# Altium integrated library Xilinx XC4000.IntLib: 294 symbols (part 5 of 21)
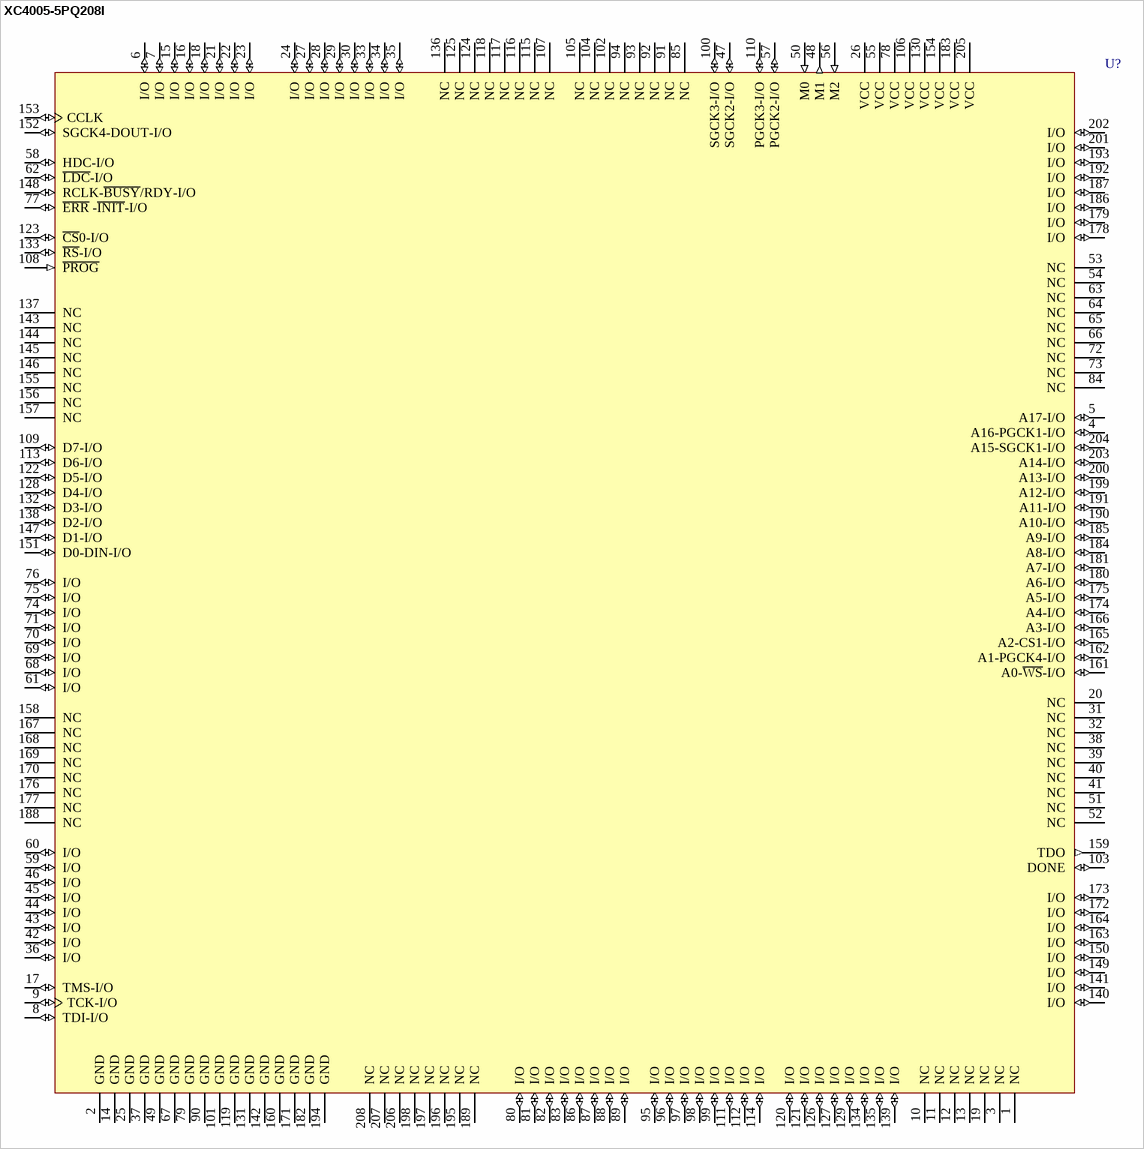
[diagram p233: symbol XC4005-5PQ208I]

## XC4005-5PQ208I
designator U?
Logic Cell Array, with 112 I/O Pins, 208-Pin PQFP, Industrial Grade; ComponentAvailability: Not for New Design; Published: 8-Jun-2000; LatestRevisionDate: 13-Apr-2006; LatestRevisionNote: IPC-7351 Footprint Added.; DatasheetVersion: 1994; PackageVersion: ver1.2, Jun-2004; PackageReference: PQ208; Publisher: Altium Limited; PackageDescription: 208-Pin Plastic Quad Flat Pack (PQ208); Code_JEDEC: MS-029-FA-1; ComponentLink1Description: Manufacturer Link; ComponentLink1URL: http://www.xilinx.com/; ComponentLink2Description: Datasheet; ComponentLink2URL: http://direct.xilinx.com/bvdocs/publications/4000.pdf
footprint PQ208_N (Shrink QFP, 208-Leads, Body 28x28mm, Pitch 0.5mm, IPC Medium Density)
footprint PQ208_L (Shrink QFP, 208-Leads, Body 28x28mm, Pitch 0.5mm, IPC High Density)
footprint PQ208_M (Shrink QFP, 208-Leads, Body 28x28mm, Pitch 0.5mm, IPC Low Density)
3D model XC4005-PQ208 (208-Pin Plastic Quad Flat Pack (PQ208))
pins: 1 NC, 2 GND (power), 3 NC, 4 A16-PGCK1-I/O (io), 5 A17-I/O (io), 6 I/O (io), 7 I/O (io), 8 TDI-I/O (io), 9 TCK-I/O (io), 10 NC, 11 NC, 12 NC, 13 NC, 14 GND (power), 15 I/O (io), 16 I/O (io), 17 TMS-I/O (io), 18 I/O (io), 19 NC, 20 NC, 21 I/O (io), 22 I/O (io), 23 I/O (io), 24 I/O (io), 25 GND (power), 26 VCC (power), 27 I/O (io), 28 I/O (io), 29 I/O (io), 30 I/O (io), 31 NC, 32 NC, 33 I/O (io), 34 I/O (io), 35 I/O (io), 36 I/O (io), 37 GND (power), 38 NC, 39 NC, 40 NC, 41 NC, 42 I/O (io), 43 I/O (io), 44 I/O (io), 45 I/O (io), 46 I/O (io), 47 SGCK2-I/O (io), 48 M1 (out), 49 GND (power), 50 M0 (in), 51 NC, 52 NC, 53 NC, 54 NC, 55 VCC (power), 56 M2 (in), 57 PGCK2-I/O (io), 58 HDC-I/O (io), 59 I/O (io), 60 I/O (io), 61 I/O (io), 62 ~{LDC}-I/O (io), 63 NC, 64 NC, 65 NC, 66 NC, 67 GND (power), 68 I/O (io), 69 I/O (io), 70 I/O (io), 71 I/O (io), 72 NC, 73 NC, 74 I/O (io), 75 I/O (io), 76 I/O (io), 77 ~{ERR} -~{INIT}-I/O (io), 78 VCC (power), 79 GND (power), 80 I/O (io), 81 I/O (io), 82 I/O (io), 83 I/O (io), 84 NC, 85 NC, 86 I/O (io), 87 I/O (io), 88 I/O (io), 89 I/O (io), 90 GND (power), 91 NC, 92 NC, 93 NC, 94 NC, 95 I/O (io), 96 I/O (io), 97 I/O (io), 98 I/O (io), 99 I/O (io), 100 SGCK3-I/O (io), 101 GND (power), 102 NC, 103 DONE (io), 104 NC, 105 NC, 106 VCC (power), 107 NC, 108 ~{PROG} (in), 109 D7-I/O (io), 110 PGCK3-I/O (io), 111 I/O (io), 112 I/O (io), 113 D6-I/O (io), 114 I/O (io), 115 NC, 116 NC, 117 NC, 118 NC, 119 GND (power), 120 I/O (io), 121 I/O (io), 122 D5-I/O (io), 123 ~{CS}0-I/O (io), 124 NC, 125 NC, 126 I/O (io), 127 I/O (io), 128 D4-I/O (io), 129 I/O (io), 130 VCC (power), 131 GND (power), 132 D3-I/O (io), 133 ~{RS}-I/O (io), 134 I/O (io), 135 I/O (io), 136 NC, 137 NC, 138 D2-I/O (io), 139 I/O (io), 140 I/O (io), 141 I/O (io), 142 GND (power), 143 NC, 144 NC, 145 NC, 146 NC, 147 D1-I/O (io), 148 RCLK-~{BUSY}/RDY-I/O (io), 149 I/O (io), 150 I/O (io), 151 D0-DIN-I/O (io), 152 SGCK4-DOUT-I/O (io), 153 CCLK (io), 154 VCC (power), 155 NC, 156 NC, 157 NC, 158 NC, 159 TDO (out), 160 GND (power), 161 A0-~{WS}-I/O (io), 162 A1-PGCK4-I/O (io), 163 I/O (io), 164 I/O (io), 165 A2-CS1-I/O (io), 166 A3-I/O (io), 167 NC, 168 NC, 169 NC, 170 NC, 171 GND (power), 172 I/O (io), 173 I/O (io), 174 A4-I/O (io), 175 A5-I/O (io), 176 NC, 177 NC, 178 I/O (io), 179 I/O (io), 180 A6-I/O (io), 181 A7-I/O (io), 182 GND (power), 183 VCC (power), 184 A8-I/O (io), 185 A9-I/O (io), 186 I/O (io), 187 I/O (io), 188 NC, 189 NC, 190 A10-I/O (io), 191 A11-I/O (io), 192 I/O (io), 193 I/O (io), 194 GND (power), 195 NC, 196 NC, 197 NC, 198 NC, 199 A12-I/O (io), 200 A13-I/O (io), 201 I/O (io), 202 I/O (io), 203 A14-I/O (io), 204 A15-SGCK1-I/O (io), 205 VCC (power), 206 NC, 207 NC, 208 NC

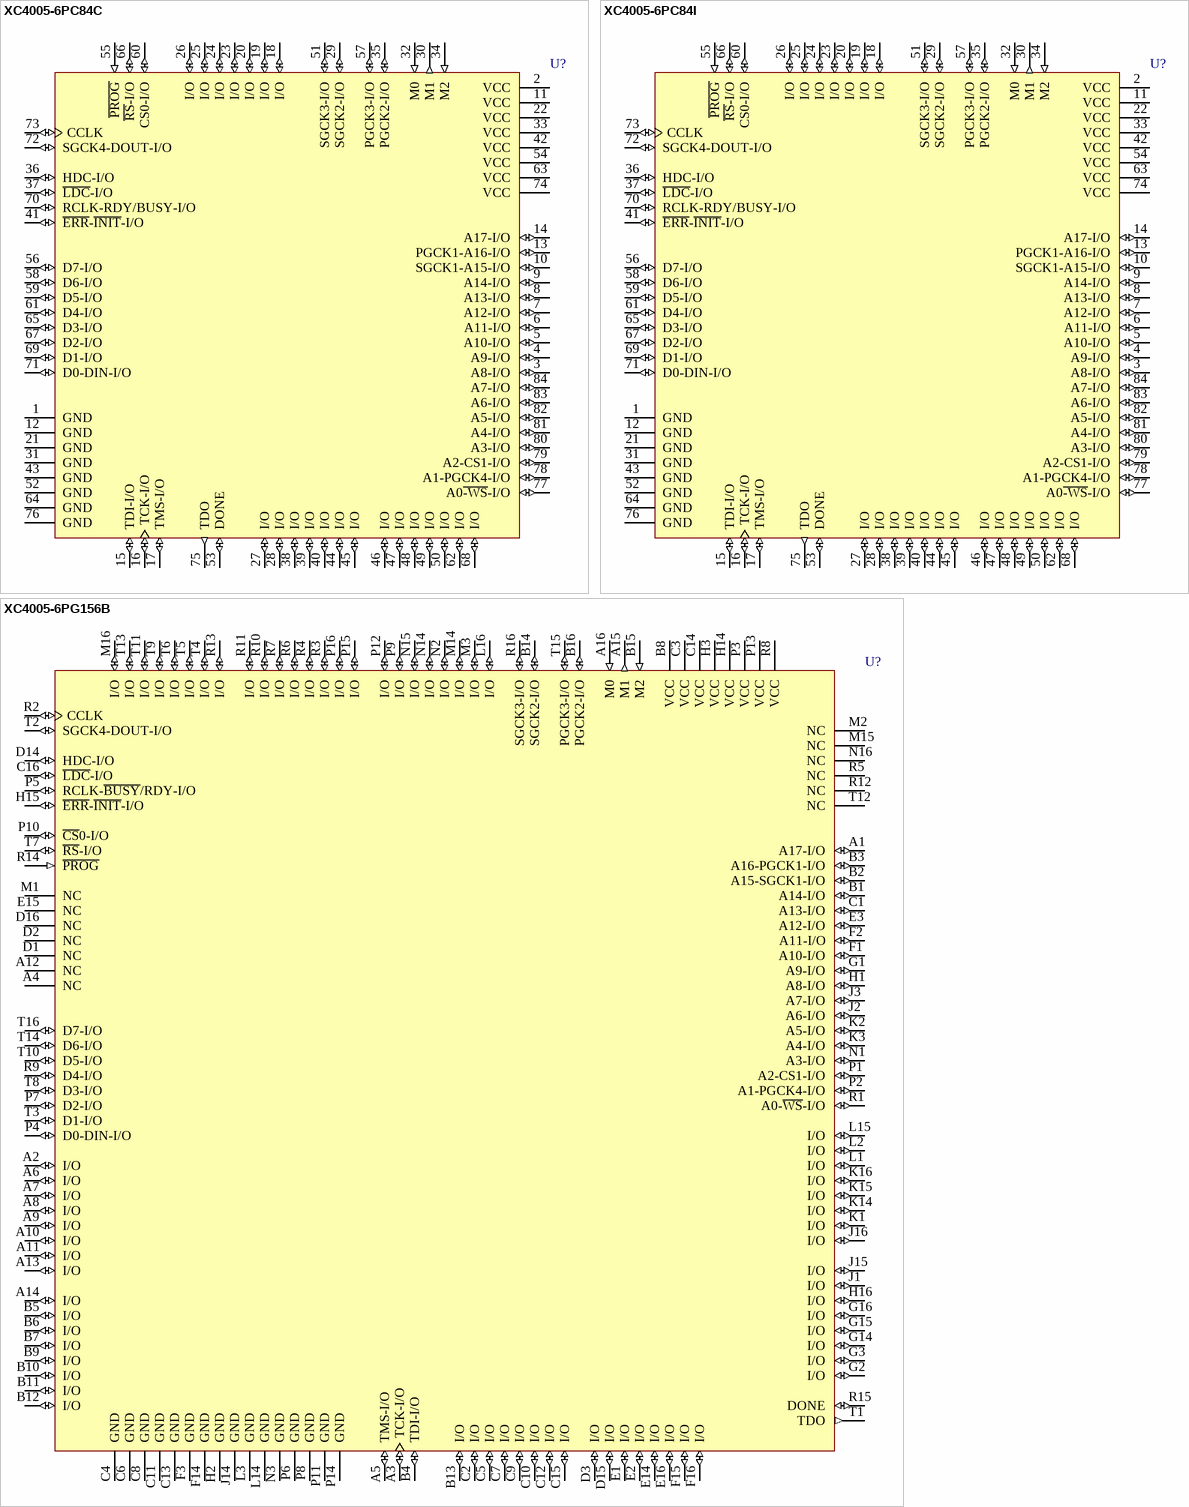
[diagram p31: symbols XC4005-6PC84C to XC4005-6PG156B]

## XC4005-6PC84C
designator U?
Logic Cell Array, with 61 I/O Pins, 84-Pin PLCC, Commercial Grade; ComponentAvailability: Not for New Design; Published: 8-Jun-2000; LatestRevisionDate: 13-Apr-2006; LatestRevisionNote: IPC-7351 Footprint Added.; DatasheetVersion: 1994; PackageVersion: ver1.2, Jun-2004; PackageReference: PC84; Publisher: Altium Limited; PackageDescription: 84-Pin Plastic Leaded Chip Carrier (PC84); Code_JEDEC: MS-047; Code_IPC: PLCC-84; ComponentLink1Description: Manufacturer Link; ComponentLink1URL: http://www.xilinx.com/; ComponentLink2Description: Discontinuation Notice; ComponentLink2URL: http://direct.xilinx.com/bvdocs/notifications/pdn2002-03.pdf
footprint PC84_N (Leaded Chip Carrier, 84-Leads, Body 29.3x29.3mm, Pitch 1.27mm, IPC Medium Density)
footprint PC84_L (Leaded Chip Carrier, 84-Leads, Body 29.3x29.3mm, Pitch 1.27mm, IPC High Density)
footprint PC84_M (Leaded Chip Carrier, 84-Leads, Body 29.3x29.3mm, Pitch 1.27mm, IPC Low Density)
3D model XC4005-PC84 (84-Pin Plastic Leaded Chip Carrier (PC84))
pins: 1 GND (power), 2 VCC (power), 3 A8-I/O (io), 4 A9-I/O (io), 5 A10-I/O (io), 6 A11-I/O (io), 7 A12-I/O (io), 8 A13-I/O (io), 9 A14-I/O (io), 10 SGCK1-A15-I/O (io), 11 VCC (power), 12 GND (power), 13 PGCK1-A16-I/O (io), 14 A17-I/O (io), 15 TDI-I/O (io), 16 TCK-I/O (io), 17 TMS-I/O (io), 18 I/O (io), 19 I/O (io), 20 I/O (io), 21 GND (power), 22 VCC (power), 23 I/O (io), 24 I/O (io), 25 I/O (io), 26 I/O (io), 27 I/O (io), 28 I/O (io), 29 SGCK2-I/O (io), 30 M1 (out), 31 GND (power), 32 M0 (in), 33 VCC (power), 34 M2 (in), 35 PGCK2-I/O (io), 36 HDC-I/O (io), 37 ~{LDC}-I/O (io), 38 I/O (io), 39 I/O (io), 40 I/O (io), 41 ~{ERR}-~{INIT}-I/O (io), 42 VCC (power), 43 GND (power), 44 I/O (io), 45 I/O (io), 46 I/O (io), 47 I/O (io), 48 I/O (io), 49 I/O (io), 50 I/O (io), 51 SGCK3-I/O (io), 52 GND (power), 53 DONE (io), 54 VCC (power), 55 ~{PROG} (in), 56 D7-I/O (io), 57 PGCK3-I/O (io), 58 D6-I/O (io), 59 D5-I/O (io), 60 CS0-I/O (io), 61 D4-I/O (io), 62 I/O (io), 63 VCC (power), 64 GND (power), 65 D3-I/O (io), 66 ~{RS}-I/O (io), 67 D2-I/O (io), 68 I/O (io), 69 D1-I/O (io), 70 RCLK-RDY/BUSY-I/O (io), 71 D0-DIN-I/O (io), 72 SGCK4-DOUT-I/O (io), 73 CCLK (io), 74 VCC (power), 75 TDO (out), 76 GND (power), 77 A0~{-WS}-I/O (io), 78 A1-PGCK4-I/O (io), 79 A2-CS1-I/O (io), 80 A3-I/O (io), 81 A4-I/O (io), 82 A5-I/O (io), 83 A6-I/O (io), 84 A7-I/O (io)

## XC4005-6PC84I
designator U?
Logic Cell Array, with 61 I/O Pins, 84-Pin PLCC, Industrial Grade; ComponentAvailability: Not for New Design; Published: 8-Jun-2000; LatestRevisionDate: 13-Apr-2006; LatestRevisionNote: IPC-7351 Footprint Added.; DatasheetVersion: 1994; PackageVersion: ver1.2, Jun-2004; PackageReference: PC84; Publisher: Altium Limited; PackageDescription: 84-Pin Plastic Leaded Chip Carrier (PC84); Code_JEDEC: MS-047; Code_IPC: PLCC-84; ComponentLink1Description: Manufacturer Link; ComponentLink1URL: http://www.xilinx.com/; ComponentLink2Description: Discontinuation Notice; ComponentLink2URL: http://direct.xilinx.com/bvdocs/notifications/pdn2002-03.pdf
footprint PC84_N (Leaded Chip Carrier, 84-Leads, Body 29.3x29.3mm, Pitch 1.27mm, IPC Medium Density)
footprint PC84_L (Leaded Chip Carrier, 84-Leads, Body 29.3x29.3mm, Pitch 1.27mm, IPC High Density)
footprint PC84_M (Leaded Chip Carrier, 84-Leads, Body 29.3x29.3mm, Pitch 1.27mm, IPC Low Density)
3D model XC4005-PC84 (84-Pin Plastic Leaded Chip Carrier (PC84))
pins: 1 GND (power), 2 VCC (power), 3 A8-I/O (io), 4 A9-I/O (io), 5 A10-I/O (io), 6 A11-I/O (io), 7 A12-I/O (io), 8 A13-I/O (io), 9 A14-I/O (io), 10 SGCK1-A15-I/O (io), 11 VCC (power), 12 GND (power), 13 PGCK1-A16-I/O (io), 14 A17-I/O (io), 15 TDI-I/O (io), 16 TCK-I/O (io), 17 TMS-I/O (io), 18 I/O (io), 19 I/O (io), 20 I/O (io), 21 GND (power), 22 VCC (power), 23 I/O (io), 24 I/O (io), 25 I/O (io), 26 I/O (io), 27 I/O (io), 28 I/O (io), 29 SGCK2-I/O (io), 30 M1 (out), 31 GND (power), 32 M0 (in), 33 VCC (power), 34 M2 (in), 35 PGCK2-I/O (io), 36 HDC-I/O (io), 37 ~{LDC}-I/O (io), 38 I/O (io), 39 I/O (io), 40 I/O (io), 41 ~{ERR}-~{INIT}-I/O (io), 42 VCC (power), 43 GND (power), 44 I/O (io), 45 I/O (io), 46 I/O (io), 47 I/O (io), 48 I/O (io), 49 I/O (io), 50 I/O (io), 51 SGCK3-I/O (io), 52 GND (power), 53 DONE (io), 54 VCC (power), 55 ~{PROG} (in), 56 D7-I/O (io), 57 PGCK3-I/O (io), 58 D6-I/O (io), 59 D5-I/O (io), 60 CS0-I/O (io), 61 D4-I/O (io), 62 I/O (io), 63 VCC (power), 64 GND (power), 65 D3-I/O (io), 66 ~{RS}-I/O (io), 67 D2-I/O (io), 68 I/O (io), 69 D1-I/O (io), 70 RCLK-RDY/BUSY-I/O (io), 71 D0-DIN-I/O (io), 72 SGCK4-DOUT-I/O (io), 73 CCLK (io), 74 VCC (power), 75 TDO (out), 76 GND (power), 77 A0~{-WS}-I/O (io), 78 A1-PGCK4-I/O (io), 79 A2-CS1-I/O (io), 80 A3-I/O (io), 81 A4-I/O (io), 82 A5-I/O (io), 83 A6-I/O (io), 84 A7-I/O (io)

## XC4005-6PG156B
designator U?
Logic Cell Array, with 112 I/O Pins, 156-Pin PGA, Military Class B Grade; ComponentAvailability: Not for New Design; Published: 8-Jun-2000; LatestRevisionDate: 04-Mar-2005; LatestRevisionNote: Stylized 3D Model Added.; DatasheetVersion: 1994; PackageVersion: ver1.1, Apr-2001; PackageReference: PG156; Publisher: Altium Limited; PackageDescription: 156-Pin Ceramic Pin Grid Array (PG156); Code_JEDEC: MO-067-AH; ComponentLink1Description: Manufacturer Link; ComponentLink1URL: http://www.xilinx.com/; ComponentLink2Description: Datasheet; ComponentLink2URL: http://direct.xilinx.com/bvdocs/publications/4000.pdf
footprint PG156 (PGA, 156-Leads, Body 42x42mm, Pitch 2.54mm)
3D model XC4005-PG156 (156-Pin Ceramic Pin Grid Array (PG156))
pins: A1 A17-I/O (io), A2 I/O (io), A3 TCK-I/O (io), A4 NC, A5 TMS-I/O (io), A6 I/O (io), A7 I/O (io), A8 I/O (io), A9 I/O (io), A10 I/O (io), A11 I/O (io), A12 NC, A13 I/O (io), A14 I/O (io), A15 M1 (out), A16 M0 (in), B1 A14-I/O (io), B2 A15-SGCK1-I/O (io), B3 A16-PGCK1-I/O (io), B4 TDI-I/O (io), B5 I/O (io), B6 I/O (io), B7 I/O (io), B8 VCC (power), B9 I/O (io), B10 I/O (io), B11 I/O (io), B12 I/O (io), B13 I/O (io), B14 SGCK2-I/O (io), B15 M2 (in), B16 PGCK2-I/O (io), C1 A13-I/O (io), C2 I/O (io), C3 VCC (power), C4 GND (power), C5 I/O (io), C6 GND (power), C7 I/O (io), C8 GND (power), C9 I/O (io), C10 I/O (io), C11 GND (power), C12 I/O (io), C13 GND (power), C14 VCC (power), C15 I/O (io), C16 ~{LDC}-I/O (io), D1 NC, D2 NC, D3 I/O (io), D14 HDC-I/O (io), D15 I/O (io), D16 NC, E1 I/O (io), E2 I/O (io), E3 A12-I/O (io), E14 I/O (io), E15 NC, E16 I/O (io), F1 A10-I/O (io), F2 A11-I/O (io), F3 GND (power), F14 GND (power), F15 I/O (io), F16 I/O (io), G1 A9-I/O (io), G2 I/O (io), G3 I/O (io), G14 I/O (io), G15 I/O (io), G16 I/O (io), H1 A8-I/O (io), H2 GND (power), H3 VCC (power), H14 VCC (power), H15 ~{ERR}-~{INIT}-I/O (io), H16 I/O (io), J1 I/O (io), J2 A6-I/O (io), J3 A7-I/O (io), J14 GND (power), J15 I/O (io), J16 I/O (io), K1 I/O (io), K2 A5-I/O (io), K3 A4-I/O (io), K14 I/O (io), K15 I/O (io), K16 I/O (io), L1 I/O (io), L2 I/O (io), L3 GND (power), L14 GND (power), L15 I/O (io), L16 I/O (io), M1 NC, M2 NC, M3 I/O (io), M14 I/O (io), M15 NC, M16 I/O (io), N1 A3-I/O (io), N2 I/O (io), N3 GND (power), N14 I/O (io), N15 I/O (io), N16 NC, P1 A2-CS1-I/O (io), P2 A1-PGCK4-I/O (io), P3 VCC (power), P4 D0-DIN-I/O (io), P5 RCLK-~{BUSY}/RDY-I/O (io), P6 GND (power), P7 D2-I/O (io), P8 GND (power), P9 I/O (io), P10 ~{CS}0-I/O (io), P11 GND (power), P12 I/O (io), P13 VCC (power), P14 GND (power), P15 I/O (io), P16 I/O (io), R1 A0-~{WS}-I/O (io), R2 CCLK (io), R3 I/O (io), R4 I/O (io), R5 NC, R6 I/O (io), R7 I/O (io), R8 VCC (power), R9 D4-I/O (io), R10 I/O (io), R11 I/O (io), R12 NC, R13 I/O (io), R14 ~{PROG} (in), R15 DONE (io), R16 SGCK3-I/O (io), T1 TDO (out), T2 SGCK4-DOUT-I/O (io), T3 D1-I/O (io), T4 I/O (io), T5 I/O (io), T6 I/O (io), T7 ~{RS}-I/O (io), T8 D3-I/O (io), T9 I/O (io), T10 D5-I/O (io), T11 I/O (io), T12 NC, T13 I/O (io), T14 D6-I/O (io), T15 PGCK3-I/O (io), T16 D7-I/O (io)

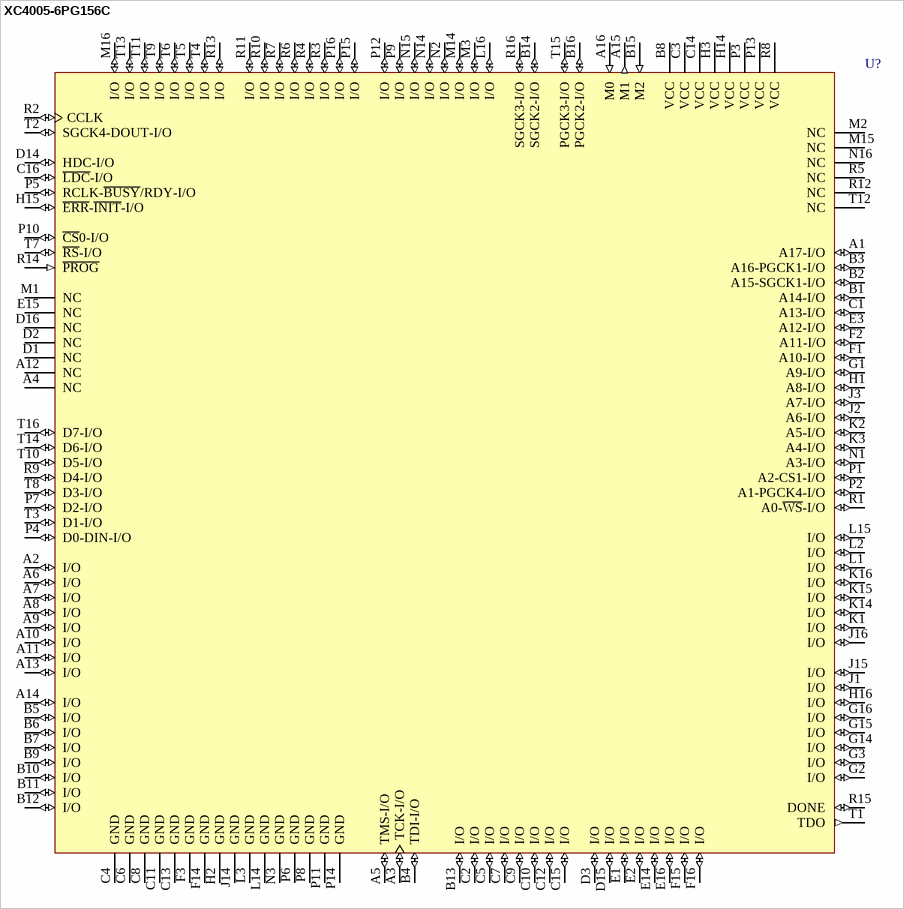
[diagram p32: symbol XC4005-6PG156C]

## XC4005-6PG156C
designator U?
Logic Cell Array, with 112 I/O Pins, 156-Pin PGA, Commercial Grade; ComponentAvailability: Not for New Design; Published: 8-Jun-2000; LatestRevisionDate: 04-Mar-2005; LatestRevisionNote: Stylized 3D Model Added.; DatasheetVersion: 1994; PackageVersion: ver1.1, Apr-2001; PackageReference: PG156; Publisher: Altium Limited; PackageDescription: 156-Pin Ceramic Pin Grid Array (PG156); Code_JEDEC: MO-067-AH; ComponentLink1Description: Manufacturer Link; ComponentLink1URL: http://www.xilinx.com/; ComponentLink2Description: Discontinuation Notice; ComponentLink2URL: http://direct.xilinx.com/bvdocs/notifications/pdn2002-03.pdf
footprint PG156 (PGA, 156-Leads, Body 42x42mm, Pitch 2.54mm)
3D model XC4005-PG156 (156-Pin Ceramic Pin Grid Array (PG156))
pins: A1 A17-I/O (io), A2 I/O (io), A3 TCK-I/O (io), A4 NC, A5 TMS-I/O (io), A6 I/O (io), A7 I/O (io), A8 I/O (io), A9 I/O (io), A10 I/O (io), A11 I/O (io), A12 NC, A13 I/O (io), A14 I/O (io), A15 M1 (out), A16 M0 (in), B1 A14-I/O (io), B2 A15-SGCK1-I/O (io), B3 A16-PGCK1-I/O (io), B4 TDI-I/O (io), B5 I/O (io), B6 I/O (io), B7 I/O (io), B8 VCC (power), B9 I/O (io), B10 I/O (io), B11 I/O (io), B12 I/O (io), B13 I/O (io), B14 SGCK2-I/O (io), B15 M2 (in), B16 PGCK2-I/O (io), C1 A13-I/O (io), C2 I/O (io), C3 VCC (power), C4 GND (power), C5 I/O (io), C6 GND (power), C7 I/O (io), C8 GND (power), C9 I/O (io), C10 I/O (io), C11 GND (power), C12 I/O (io), C13 GND (power), C14 VCC (power), C15 I/O (io), C16 ~{LDC}-I/O (io), D1 NC, D2 NC, D3 I/O (io), D14 HDC-I/O (io), D15 I/O (io), D16 NC, E1 I/O (io), E2 I/O (io), E3 A12-I/O (io), E14 I/O (io), E15 NC, E16 I/O (io), F1 A10-I/O (io), F2 A11-I/O (io), F3 GND (power), F14 GND (power), F15 I/O (io), F16 I/O (io), G1 A9-I/O (io), G2 I/O (io), G3 I/O (io), G14 I/O (io), G15 I/O (io), G16 I/O (io), H1 A8-I/O (io), H2 GND (power), H3 VCC (power), H14 VCC (power), H15 ~{ERR}-~{INIT}-I/O (io), H16 I/O (io), J1 I/O (io), J2 A6-I/O (io), J3 A7-I/O (io), J14 GND (power), J15 I/O (io), J16 I/O (io), K1 I/O (io), K2 A5-I/O (io), K3 A4-I/O (io), K14 I/O (io), K15 I/O (io), K16 I/O (io), L1 I/O (io), L2 I/O (io), L3 GND (power), L14 GND (power), L15 I/O (io), L16 I/O (io), M1 NC, M2 NC, M3 I/O (io), M14 I/O (io), M15 NC, M16 I/O (io), N1 A3-I/O (io), N2 I/O (io), N3 GND (power), N14 I/O (io), N15 I/O (io), N16 NC, P1 A2-CS1-I/O (io), P2 A1-PGCK4-I/O (io), P3 VCC (power), P4 D0-DIN-I/O (io), P5 RCLK-~{BUSY}/RDY-I/O (io), P6 GND (power), P7 D2-I/O (io), P8 GND (power), P9 I/O (io), P10 ~{CS}0-I/O (io), P11 GND (power), P12 I/O (io), P13 VCC (power), P14 GND (power), P15 I/O (io), P16 I/O (io), R1 A0-~{WS}-I/O (io), R2 CCLK (io), R3 I/O (io), R4 I/O (io), R5 NC, R6 I/O (io), R7 I/O (io), R8 VCC (power), R9 D4-I/O (io), R10 I/O (io), R11 I/O (io), R12 NC, R13 I/O (io), R14 ~{PROG} (in), R15 DONE (io), R16 SGCK3-I/O (io), T1 TDO (out), T2 SGCK4-DOUT-I/O (io), T3 D1-I/O (io), T4 I/O (io), T5 I/O (io), T6 I/O (io), T7 ~{RS}-I/O (io), T8 D3-I/O (io), T9 I/O (io), T10 D5-I/O (io), T11 I/O (io), T12 NC, T13 I/O (io), T14 D6-I/O (io), T15 PGCK3-I/O (io), T16 D7-I/O (io)

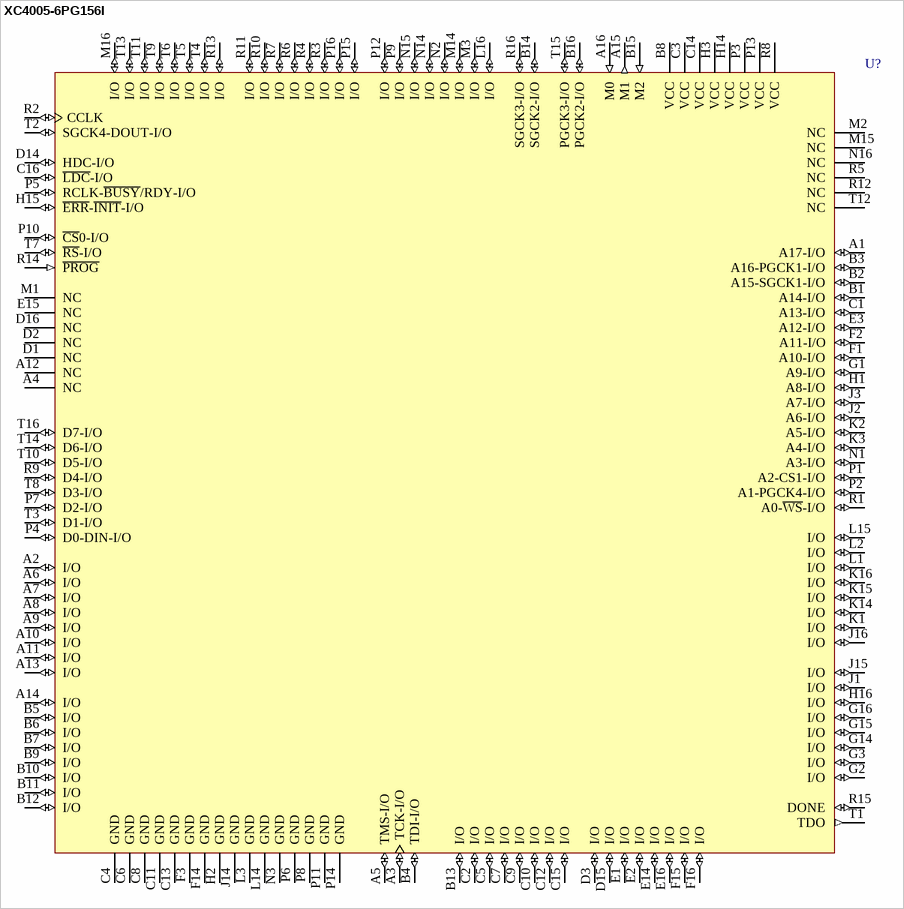
[diagram p33: symbol XC4005-6PG156I]

## XC4005-6PG156I
designator U?
Logic Cell Array, with 112 I/O Pins, 156-Pin PGA, Industrial Grade; ComponentAvailability: Not for New Design; Published: 8-Jun-2000; LatestRevisionDate: 04-Mar-2005; LatestRevisionNote: Stylized 3D Model Added.; DatasheetVersion: 1994; PackageVersion: ver1.1, Apr-2001; PackageReference: PG156; Publisher: Altium Limited; PackageDescription: 156-Pin Ceramic Pin Grid Array (PG156); Code_JEDEC: MO-067-AH; ComponentLink1Description: Manufacturer Link; ComponentLink1URL: http://www.xilinx.com/; ComponentLink2Description: Discontinuation Notice; ComponentLink2URL: http://direct.xilinx.com/bvdocs/notifications/pdn2002-03.pdf
footprint PG156 (PGA, 156-Leads, Body 42x42mm, Pitch 2.54mm)
3D model XC4005-PG156 (156-Pin Ceramic Pin Grid Array (PG156))
pins: A1 A17-I/O (io), A2 I/O (io), A3 TCK-I/O (io), A4 NC, A5 TMS-I/O (io), A6 I/O (io), A7 I/O (io), A8 I/O (io), A9 I/O (io), A10 I/O (io), A11 I/O (io), A12 NC, A13 I/O (io), A14 I/O (io), A15 M1 (out), A16 M0 (in), B1 A14-I/O (io), B2 A15-SGCK1-I/O (io), B3 A16-PGCK1-I/O (io), B4 TDI-I/O (io), B5 I/O (io), B6 I/O (io), B7 I/O (io), B8 VCC (power), B9 I/O (io), B10 I/O (io), B11 I/O (io), B12 I/O (io), B13 I/O (io), B14 SGCK2-I/O (io), B15 M2 (in), B16 PGCK2-I/O (io), C1 A13-I/O (io), C2 I/O (io), C3 VCC (power), C4 GND (power), C5 I/O (io), C6 GND (power), C7 I/O (io), C8 GND (power), C9 I/O (io), C10 I/O (io), C11 GND (power), C12 I/O (io), C13 GND (power), C14 VCC (power), C15 I/O (io), C16 ~{LDC}-I/O (io), D1 NC, D2 NC, D3 I/O (io), D14 HDC-I/O (io), D15 I/O (io), D16 NC, E1 I/O (io), E2 I/O (io), E3 A12-I/O (io), E14 I/O (io), E15 NC, E16 I/O (io), F1 A10-I/O (io), F2 A11-I/O (io), F3 GND (power), F14 GND (power), F15 I/O (io), F16 I/O (io), G1 A9-I/O (io), G2 I/O (io), G3 I/O (io), G14 I/O (io), G15 I/O (io), G16 I/O (io), H1 A8-I/O (io), H2 GND (power), H3 VCC (power), H14 VCC (power), H15 ~{ERR}-~{INIT}-I/O (io), H16 I/O (io), J1 I/O (io), J2 A6-I/O (io), J3 A7-I/O (io), J14 GND (power), J15 I/O (io), J16 I/O (io), K1 I/O (io), K2 A5-I/O (io), K3 A4-I/O (io), K14 I/O (io), K15 I/O (io), K16 I/O (io), L1 I/O (io), L2 I/O (io), L3 GND (power), L14 GND (power), L15 I/O (io), L16 I/O (io), M1 NC, M2 NC, M3 I/O (io), M14 I/O (io), M15 NC, M16 I/O (io), N1 A3-I/O (io), N2 I/O (io), N3 GND (power), N14 I/O (io), N15 I/O (io), N16 NC, P1 A2-CS1-I/O (io), P2 A1-PGCK4-I/O (io), P3 VCC (power), P4 D0-DIN-I/O (io), P5 RCLK-~{BUSY}/RDY-I/O (io), P6 GND (power), P7 D2-I/O (io), P8 GND (power), P9 I/O (io), P10 ~{CS}0-I/O (io), P11 GND (power), P12 I/O (io), P13 VCC (power), P14 GND (power), P15 I/O (io), P16 I/O (io), R1 A0-~{WS}-I/O (io), R2 CCLK (io), R3 I/O (io), R4 I/O (io), R5 NC, R6 I/O (io), R7 I/O (io), R8 VCC (power), R9 D4-I/O (io), R10 I/O (io), R11 I/O (io), R12 NC, R13 I/O (io), R14 ~{PROG} (in), R15 DONE (io), R16 SGCK3-I/O (io), T1 TDO (out), T2 SGCK4-DOUT-I/O (io), T3 D1-I/O (io), T4 I/O (io), T5 I/O (io), T6 I/O (io), T7 ~{RS}-I/O (io), T8 D3-I/O (io), T9 I/O (io), T10 D5-I/O (io), T11 I/O (io), T12 NC, T13 I/O (io), T14 D6-I/O (io), T15 PGCK3-I/O (io), T16 D7-I/O (io)

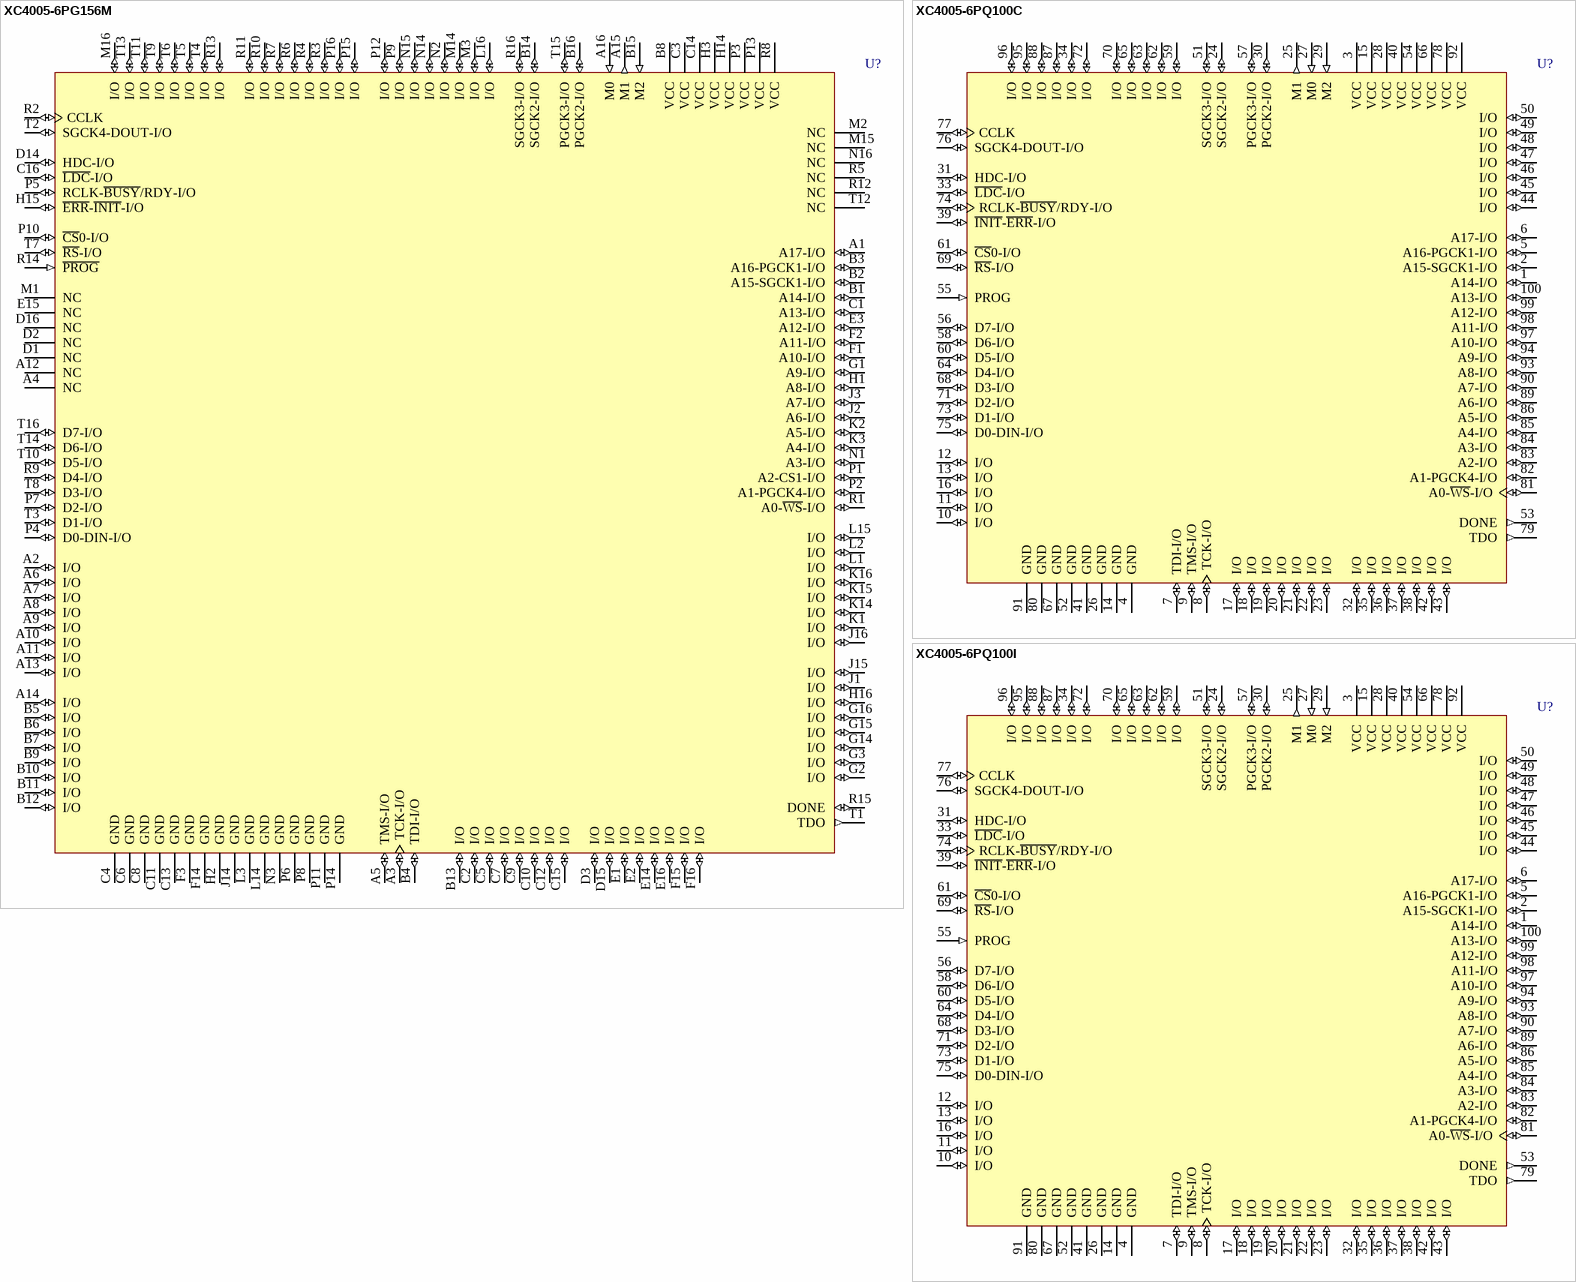
[diagram p34: symbols XC4005-6PG156M to XC4005-6PQ100I]

## XC4005-6PG156M
designator U?
Logic Cell Array, with 112 I/O Pins, 156-Pin PGA, Military Grade; ComponentAvailability: Not for New Design; Published: 8-Jun-2000; LatestRevisionDate: 04-Mar-2005; LatestRevisionNote: Stylized 3D Model Added.; DatasheetVersion: 1994; PackageVersion: ver1.1, Apr-2001; PackageReference: PG156; Publisher: Altium Limited; PackageDescription: 156-Pin Ceramic Pin Grid Array (PG156); Code_JEDEC: MO-067-AH; ComponentLink1Description: Manufacturer Link; ComponentLink1URL: http://www.xilinx.com/; ComponentLink2Description: Datasheet; ComponentLink2URL: http://direct.xilinx.com/bvdocs/publications/4000.pdf
footprint PG156 (PGA, 156-Leads, Body 42x42mm, Pitch 2.54mm)
3D model XC4005-PG156 (156-Pin Ceramic Pin Grid Array (PG156))
pins: A1 A17-I/O (io), A2 I/O (io), A3 TCK-I/O (io), A4 NC, A5 TMS-I/O (io), A6 I/O (io), A7 I/O (io), A8 I/O (io), A9 I/O (io), A10 I/O (io), A11 I/O (io), A12 NC, A13 I/O (io), A14 I/O (io), A15 M1 (out), A16 M0 (in), B1 A14-I/O (io), B2 A15-SGCK1-I/O (io), B3 A16-PGCK1-I/O (io), B4 TDI-I/O (io), B5 I/O (io), B6 I/O (io), B7 I/O (io), B8 VCC (power), B9 I/O (io), B10 I/O (io), B11 I/O (io), B12 I/O (io), B13 I/O (io), B14 SGCK2-I/O (io), B15 M2 (in), B16 PGCK2-I/O (io), C1 A13-I/O (io), C2 I/O (io), C3 VCC (power), C4 GND (power), C5 I/O (io), C6 GND (power), C7 I/O (io), C8 GND (power), C9 I/O (io), C10 I/O (io), C11 GND (power), C12 I/O (io), C13 GND (power), C14 VCC (power), C15 I/O (io), C16 ~{LDC}-I/O (io), D1 NC, D2 NC, D3 I/O (io), D14 HDC-I/O (io), D15 I/O (io), D16 NC, E1 I/O (io), E2 I/O (io), E3 A12-I/O (io), E14 I/O (io), E15 NC, E16 I/O (io), F1 A10-I/O (io), F2 A11-I/O (io), F3 GND (power), F14 GND (power), F15 I/O (io), F16 I/O (io), G1 A9-I/O (io), G2 I/O (io), G3 I/O (io), G14 I/O (io), G15 I/O (io), G16 I/O (io), H1 A8-I/O (io), H2 GND (power), H3 VCC (power), H14 VCC (power), H15 ~{ERR}-~{INIT}-I/O (io), H16 I/O (io), J1 I/O (io), J2 A6-I/O (io), J3 A7-I/O (io), J14 GND (power), J15 I/O (io), J16 I/O (io), K1 I/O (io), K2 A5-I/O (io), K3 A4-I/O (io), K14 I/O (io), K15 I/O (io), K16 I/O (io), L1 I/O (io), L2 I/O (io), L3 GND (power), L14 GND (power), L15 I/O (io), L16 I/O (io), M1 NC, M2 NC, M3 I/O (io), M14 I/O (io), M15 NC, M16 I/O (io), N1 A3-I/O (io), N2 I/O (io), N3 GND (power), N14 I/O (io), N15 I/O (io), N16 NC, P1 A2-CS1-I/O (io), P2 A1-PGCK4-I/O (io), P3 VCC (power), P4 D0-DIN-I/O (io), P5 RCLK-~{BUSY}/RDY-I/O (io), P6 GND (power), P7 D2-I/O (io), P8 GND (power), P9 I/O (io), P10 ~{CS}0-I/O (io), P11 GND (power), P12 I/O (io), P13 VCC (power), P14 GND (power), P15 I/O (io), P16 I/O (io), R1 A0-~{WS}-I/O (io), R2 CCLK (io), R3 I/O (io), R4 I/O (io), R5 NC, R6 I/O (io), R7 I/O (io), R8 VCC (power), R9 D4-I/O (io), R10 I/O (io), R11 I/O (io), R12 NC, R13 I/O (io), R14 ~{PROG} (in), R15 DONE (io), R16 SGCK3-I/O (io), T1 TDO (out), T2 SGCK4-DOUT-I/O (io), T3 D1-I/O (io), T4 I/O (io), T5 I/O (io), T6 I/O (io), T7 ~{RS}-I/O (io), T8 D3-I/O (io), T9 I/O (io), T10 D5-I/O (io), T11 I/O (io), T12 NC, T13 I/O (io), T14 D6-I/O (io), T15 PGCK3-I/O (io), T16 D7-I/O (io)

## XC4005-6PQ100C
designator U?
Logic Cell Array, with 77 I/O Pins, 100-Pin PQFP, Commercial Grade; ComponentAvailability: Not for New Design; Published: 8-Jun-2000; LatestRevisionDate: 13-Apr-2006; LatestRevisionNote: IPC-7351 Footprint Added.; DatasheetVersion: 1994; PackageVersion: ver1.2, Oct-2002; PackageReference: PQ100; Publisher: Altium Limited; PackageDescription: 100-Pin Plastic Quad Flat Pack (PQ100); Code_IPC: QFP65P1720X2320-100; ComponentLink1Description: Manufacturer Link; ComponentLink1URL: http://www.xilinx.com/; ComponentLink2Description: Datasheet; ComponentLink2URL: http://direct.xilinx.com/bvdocs/publications/4000.pdf
footprint PQ100_N (QFP, 100-Leads, Body 20x14mm, Pitch 0.65mm, IPC Medium Density)
footprint PQ100_L (QFP, 100-Leads, Body 20x14mm, Pitch 0.65mm, IPC High Density)
footprint PQ100_M (QFP, 100-Leads, Body 20x14mm, Pitch 0.65mm, IPC Low Density)
3D model XC4005-PQ100 (100-Pin Plastic Quad Flat Pack (PQ100))
pins: 1 A14-I/O (io), 2 A15-SGCK1-I/O (io), 3 VCC (power), 4 GND (power), 5 A16-PGCK1-I/O (io), 6 A17-I/O (io), 7 TDI-I/O (io), 8 TCK-I/O (io), 9 TMS-I/O (io), 10 I/O (io), 11 I/O (io), 12 I/O (io), 13 I/O (io), 14 GND (power), 15 VCC (power), 16 I/O (io), 17 I/O (io), 18 I/O (io), 19 I/O (io), 20 I/O (io), 21 I/O (io), 22 I/O (io), 23 I/O (io), 24 SGCK2-I/O (io), 25 M1 (out), 26 GND (power), 27 M0 (in), 28 VCC (power), 29 M2 (in), 30 PGCK2-I/O (io), 31 HDC-I/O (io), 32 I/O (io), 33 ~{LDC}-I/O (io), 34 I/O (io), 35 I/O (io), 36 I/O (io), 37 I/O (io), 38 I/O (io), 39 ~{INIT}-~{ERR}-I/O (io), 40 VCC (power), 41 GND (power), 42 I/O (io), 43 I/O (io), 44 I/O (io), 45 I/O (io), 46 I/O (io), 47 I/O (io), 48 I/O (io), 49 I/O (io), 50 I/O (io), 51 SGCK3-I/O (io), 52 GND (power), 53 DONE (out), 54 VCC (power), 55 PROG (in), 56 D7-I/O (io), 57 PGCK3-I/O (io), 58 D6-I/O (io), 59 I/O (io), 60 D5-I/O (io), 61 ~{CS}0-I/O (io), 62 I/O (io), 63 I/O (io), 64 D4-I/O (io), 65 I/O (io), 66 VCC (power), 67 GND (power), 68 D3-I/O (io), 69 ~{RS}-I/O (io), 70 I/O (io), 71 D2-I/O (io), 72 I/O (io), 73 D1-I/O (io), 74 RCLK-~{BUSY}/RDY-I/O (io), 75 D0-DIN-I/O (io), 76 SGCK4-DOUT-I/O (io), 77 CCLK (io), 78 VCC (power), 79 TDO (out), 80 GND (power), 81 A0-~{WS}-I/O (io), 82 A1-PGCK4-I/O (io), 83 A2-I/O (io), 84 A3-I/O (io), 85 A4-I/O (io), 86 A5-I/O (io), 87 I/O (io), 88 I/O (io), 89 A6-I/O (io), 90 A7-I/O (io), 91 GND (power), 92 VCC (power), 93 A8-I/O (io), 94 A9-I/O (io), 95 I/O (io), 96 I/O (io), 97 A10-I/O (io), 98 A11-I/O (io), 99 A12-I/O (io), 100 A13-I/O (io)

## XC4005-6PQ100I
designator U?
Logic Cell Array, with 77 I/O Pins, 100-Pin PQFP, Industrial Grade; ComponentAvailability: Not for New Design; Published: 8-Jun-2000; LatestRevisionDate: 13-Apr-2006; LatestRevisionNote: IPC-7351 Footprint Added.; DatasheetVersion: 1994; PackageVersion: ver1.2, Oct-2002; PackageReference: PQ100; Publisher: Altium Limited; PackageDescription: 100-Pin Plastic Quad Flat Pack (PQ100); Code_IPC: QFP65P1720X2320-100; ComponentLink1Description: Manufacturer Link; ComponentLink1URL: http://www.xilinx.com/; ComponentLink2Description: Datasheet; ComponentLink2URL: http://direct.xilinx.com/bvdocs/publications/4000.pdf
footprint PQ100_N (QFP, 100-Leads, Body 20x14mm, Pitch 0.65mm, IPC Medium Density)
footprint PQ100_L (QFP, 100-Leads, Body 20x14mm, Pitch 0.65mm, IPC High Density)
footprint PQ100_M (QFP, 100-Leads, Body 20x14mm, Pitch 0.65mm, IPC Low Density)
3D model XC4005-PQ100 (100-Pin Plastic Quad Flat Pack (PQ100))
pins: 1 A14-I/O (io), 2 A15-SGCK1-I/O (io), 3 VCC (power), 4 GND (power), 5 A16-PGCK1-I/O (io), 6 A17-I/O (io), 7 TDI-I/O (io), 8 TCK-I/O (io), 9 TMS-I/O (io), 10 I/O (io), 11 I/O (io), 12 I/O (io), 13 I/O (io), 14 GND (power), 15 VCC (power), 16 I/O (io), 17 I/O (io), 18 I/O (io), 19 I/O (io), 20 I/O (io), 21 I/O (io), 22 I/O (io), 23 I/O (io), 24 SGCK2-I/O (io), 25 M1 (out), 26 GND (power), 27 M0 (in), 28 VCC (power), 29 M2 (in), 30 PGCK2-I/O (io), 31 HDC-I/O (io), 32 I/O (io), 33 ~{LDC}-I/O (io), 34 I/O (io), 35 I/O (io), 36 I/O (io), 37 I/O (io), 38 I/O (io), 39 ~{INIT}-~{ERR}-I/O (io), 40 VCC (power), 41 GND (power), 42 I/O (io), 43 I/O (io), 44 I/O (io), 45 I/O (io), 46 I/O (io), 47 I/O (io), 48 I/O (io), 49 I/O (io), 50 I/O (io), 51 SGCK3-I/O (io), 52 GND (power), 53 DONE (out), 54 VCC (power), 55 PROG (in), 56 D7-I/O (io), 57 PGCK3-I/O (io), 58 D6-I/O (io), 59 I/O (io), 60 D5-I/O (io), 61 ~{CS}0-I/O (io), 62 I/O (io), 63 I/O (io), 64 D4-I/O (io), 65 I/O (io), 66 VCC (power), 67 GND (power), 68 D3-I/O (io), 69 ~{RS}-I/O (io), 70 I/O (io), 71 D2-I/O (io), 72 I/O (io), 73 D1-I/O (io), 74 RCLK-~{BUSY}/RDY-I/O (io), 75 D0-DIN-I/O (io), 76 SGCK4-DOUT-I/O (io), 77 CCLK (io), 78 VCC (power), 79 TDO (out), 80 GND (power), 81 A0-~{WS}-I/O (io), 82 A1-PGCK4-I/O (io), 83 A2-I/O (io), 84 A3-I/O (io), 85 A4-I/O (io), 86 A5-I/O (io), 87 I/O (io), 88 I/O (io), 89 A6-I/O (io), 90 A7-I/O (io), 91 GND (power), 92 VCC (power), 93 A8-I/O (io), 94 A9-I/O (io), 95 I/O (io), 96 I/O (io), 97 A10-I/O (io), 98 A11-I/O (io), 99 A12-I/O (io), 100 A13-I/O (io)

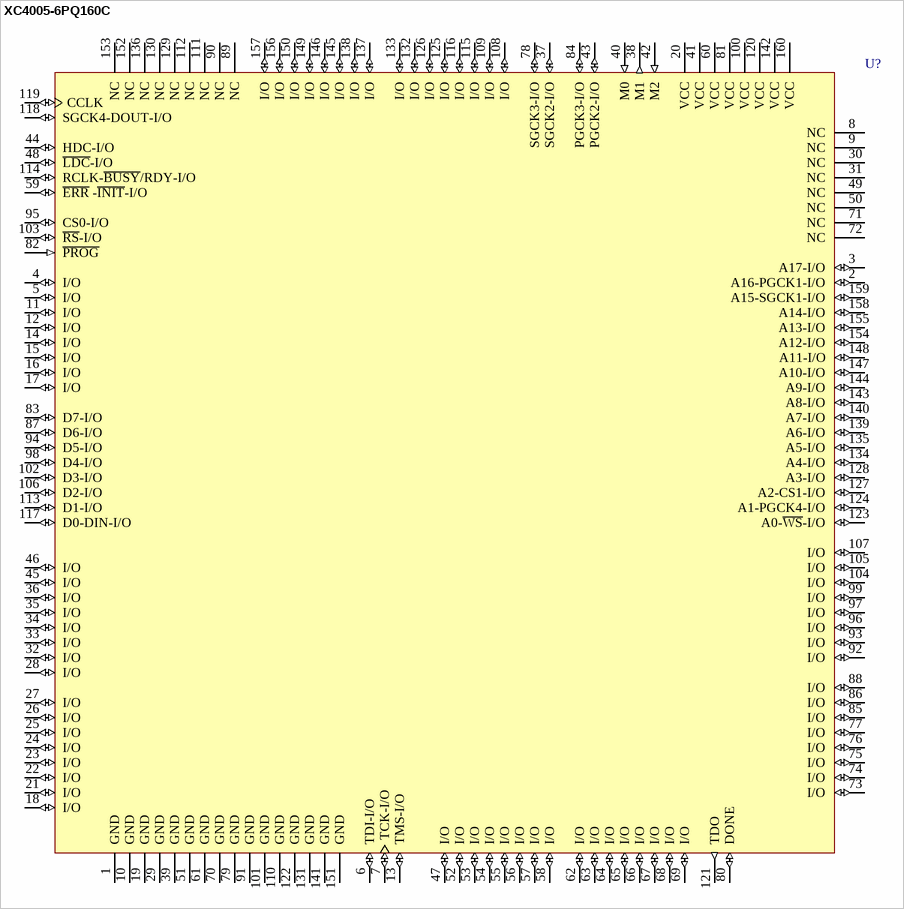
[diagram p35: symbol XC4005-6PQ160C]

## XC4005-6PQ160C
designator U?
Logic Cell Array, with 112 I/O Pins, 160-Pin PQFP, Commercial Grade; ComponentAvailability: Not for New Design; Published: 8-Jun-2000; LatestRevisionDate: 13-Apr-2006; LatestRevisionNote: IPC-7351 Footprint Added.; DatasheetVersion: 1994; PackageVersion: ver1.2, Jun-2004; PackageReference: PQ160; Publisher: Altium Limited; PackageDescription: 160-Pin Plastic Quad Flat Pack (PQ160); Code_JEDEC: MS-022-DD1; Code_IPC: QFP65P3120X3120-160; ComponentLink1Description: Manufacturer Link; ComponentLink1URL: http://www.xilinx.com/; ComponentLink2Description: Discontinuation Notice; ComponentLink2URL: http://direct.xilinx.com/bvdocs/notifications/pdn2002-03.pdf
footprint PQ160_N (QFP, 160-Leads, Body 28 x 28mm, Pitch 0.65mm, IPC Medium Density)
footprint PQ160_L (QFP, 160-Leads, Body 28 x 28mm, Pitch 0.65mm, IPC High Density)
footprint PQ160_M (QFP, 160-Leads, Body 28 x 28mm, Pitch 0.65mm, IPC Low Density)
3D model XC4005-PQ160 (160-Pin Plastic Quad Flat Pack (PQ160))
pins: 1 GND (power), 2 A16-PGCK1-I/O (io), 3 A17-I/O (io), 4 I/O (io), 5 I/O (io), 6 TDI-I/O (io), 7 TCK-I/O (io), 8 NC, 9 NC, 10 GND (power), 11 I/O (io), 12 I/O (io), 13 TMS-I/O (io), 14 I/O (io), 15 I/O (io), 16 I/O (io), 17 I/O (io), 18 I/O (io), 19 GND (power), 20 VCC (power), 21 I/O (io), 22 I/O (io), 23 I/O (io), 24 I/O (io), 25 I/O (io), 26 I/O (io), 27 I/O (io), 28 I/O (io), 29 GND (power), 30 NC, 31 NC, 32 I/O (io), 33 I/O (io), 34 I/O (io), 35 I/O (io), 36 I/O (io), 37 SGCK2-I/O (io), 38 M1 (out), 39 GND (power), 40 M0 (in), 41 VCC (power), 42 M2 (in), 43 PGCK2-I/O (io), 44 HDC-I/O (io), 45 I/O (io), 46 I/O (io), 47 I/O (io), 48 ~{LDC}-I/O (io), 49 NC, 50 NC, 51 GND (power), 52 I/O (io), 53 I/O (io), 54 I/O (io), 55 I/O (io), 56 I/O (io), 57 I/O (io), 58 I/O (io), 59 ~{ERR} -~{INIT}-I/O (io), 60 VCC (power), 61 GND (power), 62 I/O (io), 63 I/O (io), 64 I/O (io), 65 I/O (io), 66 I/O (io), 67 I/O (io), 68 I/O (io), 69 I/O (io), 70 GND (power), 71 NC, 72 NC, 73 I/O (io), 74 I/O (io), 75 I/O (io), 76 I/O (io), 77 I/O (io), 78 SGCK3-I/O (io), 79 GND (power), 80 DONE (io), 81 VCC (power), 82 ~{PROG} (in), 83 D7-I/O (io), 84 PGCK3-I/O (io), 85 I/O (io), 86 I/O (io), 87 D6-I/O (io), 88 I/O (io), 89 NC, 90 NC, 91 GND (power), 92 I/O (io), 93 I/O (io), 94 D5-I/O (io), 95 CS0-I/O (io), 96 I/O (io), 97 I/O (io), 98 D4-I/O (io), 99 I/O (io), 100 VCC (power), 101 GND (power), 102 D3-I/O (io), 103 ~{RS}-I/O (io), 104 I/O (io), 105 I/O (io), 106 D2-I/O (io), 107 I/O (io), 108 I/O (io), 109 I/O (io), 110 GND (power), 111 NC, 112 NC, 113 D1-I/O (io), 114 RCLK-~{BUSY}/RDY-I/O (io), 115 I/O (io), 116 I/O (io), 117 D0-DIN-I/O (io), 118 SGCK4-DOUT-I/O (io), 119 CCLK (io), 120 VCC (power), 121 TDO (out), 122 GND (power), 123 A0-~{WS}-I/O (io), 124 A1-PGCK4-I/O (io), 125 I/O (io), 126 I/O (io), 127 A2-CS1-I/O (io), 128 A3-I/O (io), 129 NC, 130 NC, 131 GND (power), 132 I/O (io), 133 I/O (io), 134 A4-I/O (io), 135 A5-I/O (io), 136 NC, 137 I/O (io), 138 I/O (io), 139 A6-I/O (io), 140 A7-I/O (io), 141 GND (power), 142 VCC (power), 143 A8-I/O (io), 144 A9-I/O (io), 145 I/O (io), 146 I/O (io), 147 A10-I/O (io), 148 A11-I/O (io), 149 I/O (io), 150 I/O (io), 151 GND (power), 152 NC, 153 NC, 154 A12-I/O (io), 155 A13-I/O (io), 156 I/O (io), 157 I/O (io), 158 A14-I/O (io), 159 A15-SGCK1-I/O (io), 160 VCC (power)

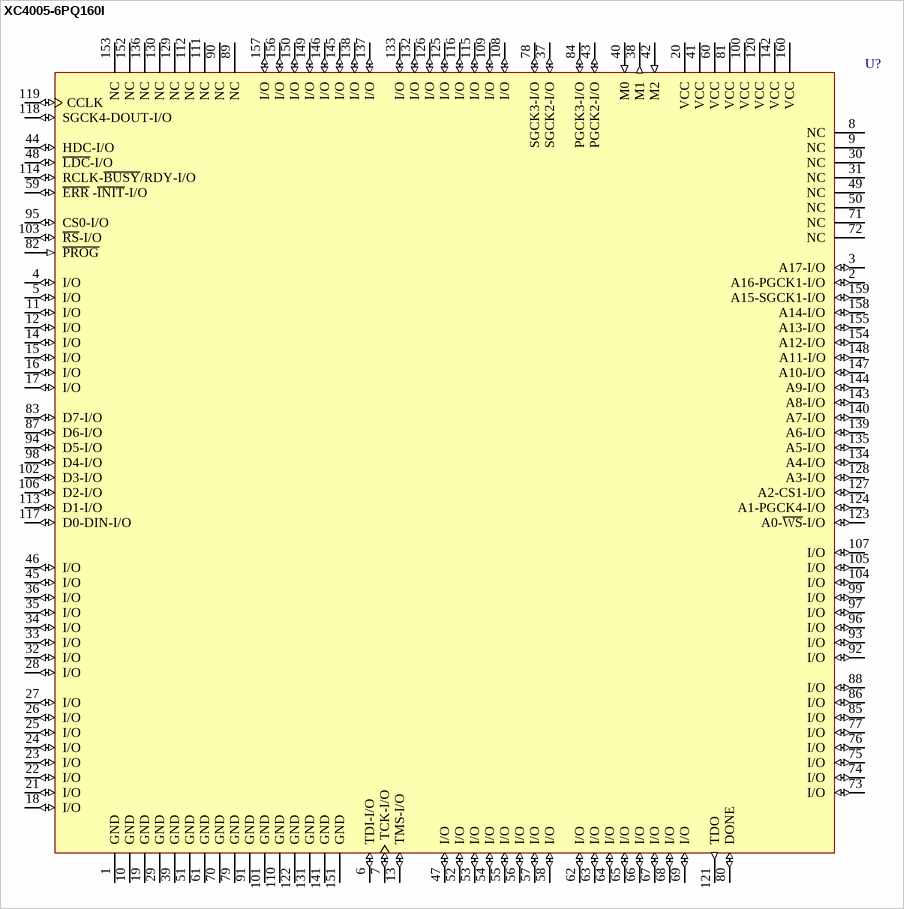
[diagram p36: symbol XC4005-6PQ160I]

## XC4005-6PQ160I
designator U?
Logic Cell Array, with 112 I/O Pins, 160-Pin PQFP, Industrial Grade; ComponentAvailability: Not for New Design; Published: 8-Jun-2000; LatestRevisionDate: 13-Apr-2006; LatestRevisionNote: IPC-7351 Footprint Added.; DatasheetVersion: 1994; PackageVersion: ver1.2, Jun-2004; PackageReference: PQ160; Publisher: Altium Limited; PackageDescription: 160-Pin Plastic Quad Flat Pack (PQ160); Code_JEDEC: MS-022-DD1; Code_IPC: QFP65P3120X3120-160; ComponentLink1Description: Manufacturer Link; ComponentLink1URL: http://www.xilinx.com/; ComponentLink2Description: Discontinuation Notice; ComponentLink2URL: http://direct.xilinx.com/bvdocs/notifications/pdn2002-03.pdf
footprint PQ160_N (QFP, 160-Leads, Body 28 x 28mm, Pitch 0.65mm, IPC Medium Density)
footprint PQ160_L (QFP, 160-Leads, Body 28 x 28mm, Pitch 0.65mm, IPC High Density)
footprint PQ160_M (QFP, 160-Leads, Body 28 x 28mm, Pitch 0.65mm, IPC Low Density)
3D model XC4005-PQ160 (160-Pin Plastic Quad Flat Pack (PQ160))
pins: 1 GND (power), 2 A16-PGCK1-I/O (io), 3 A17-I/O (io), 4 I/O (io), 5 I/O (io), 6 TDI-I/O (io), 7 TCK-I/O (io), 8 NC, 9 NC, 10 GND (power), 11 I/O (io), 12 I/O (io), 13 TMS-I/O (io), 14 I/O (io), 15 I/O (io), 16 I/O (io), 17 I/O (io), 18 I/O (io), 19 GND (power), 20 VCC (power), 21 I/O (io), 22 I/O (io), 23 I/O (io), 24 I/O (io), 25 I/O (io), 26 I/O (io), 27 I/O (io), 28 I/O (io), 29 GND (power), 30 NC, 31 NC, 32 I/O (io), 33 I/O (io), 34 I/O (io), 35 I/O (io), 36 I/O (io), 37 SGCK2-I/O (io), 38 M1 (out), 39 GND (power), 40 M0 (in), 41 VCC (power), 42 M2 (in), 43 PGCK2-I/O (io), 44 HDC-I/O (io), 45 I/O (io), 46 I/O (io), 47 I/O (io), 48 ~{LDC}-I/O (io), 49 NC, 50 NC, 51 GND (power), 52 I/O (io), 53 I/O (io), 54 I/O (io), 55 I/O (io), 56 I/O (io), 57 I/O (io), 58 I/O (io), 59 ~{ERR} -~{INIT}-I/O (io), 60 VCC (power), 61 GND (power), 62 I/O (io), 63 I/O (io), 64 I/O (io), 65 I/O (io), 66 I/O (io), 67 I/O (io), 68 I/O (io), 69 I/O (io), 70 GND (power), 71 NC, 72 NC, 73 I/O (io), 74 I/O (io), 75 I/O (io), 76 I/O (io), 77 I/O (io), 78 SGCK3-I/O (io), 79 GND (power), 80 DONE (io), 81 VCC (power), 82 ~{PROG} (in), 83 D7-I/O (io), 84 PGCK3-I/O (io), 85 I/O (io), 86 I/O (io), 87 D6-I/O (io), 88 I/O (io), 89 NC, 90 NC, 91 GND (power), 92 I/O (io), 93 I/O (io), 94 D5-I/O (io), 95 CS0-I/O (io), 96 I/O (io), 97 I/O (io), 98 D4-I/O (io), 99 I/O (io), 100 VCC (power), 101 GND (power), 102 D3-I/O (io), 103 ~{RS}-I/O (io), 104 I/O (io), 105 I/O (io), 106 D2-I/O (io), 107 I/O (io), 108 I/O (io), 109 I/O (io), 110 GND (power), 111 NC, 112 NC, 113 D1-I/O (io), 114 RCLK-~{BUSY}/RDY-I/O (io), 115 I/O (io), 116 I/O (io), 117 D0-DIN-I/O (io), 118 SGCK4-DOUT-I/O (io), 119 CCLK (io), 120 VCC (power), 121 TDO (out), 122 GND (power), 123 A0-~{WS}-I/O (io), 124 A1-PGCK4-I/O (io), 125 I/O (io), 126 I/O (io), 127 A2-CS1-I/O (io), 128 A3-I/O (io), 129 NC, 130 NC, 131 GND (power), 132 I/O (io), 133 I/O (io), 134 A4-I/O (io), 135 A5-I/O (io), 136 NC, 137 I/O (io), 138 I/O (io), 139 A6-I/O (io), 140 A7-I/O (io), 141 GND (power), 142 VCC (power), 143 A8-I/O (io), 144 A9-I/O (io), 145 I/O (io), 146 I/O (io), 147 A10-I/O (io), 148 A11-I/O (io), 149 I/O (io), 150 I/O (io), 151 GND (power), 152 NC, 153 NC, 154 A12-I/O (io), 155 A13-I/O (io), 156 I/O (io), 157 I/O (io), 158 A14-I/O (io), 159 A15-SGCK1-I/O (io), 160 VCC (power)

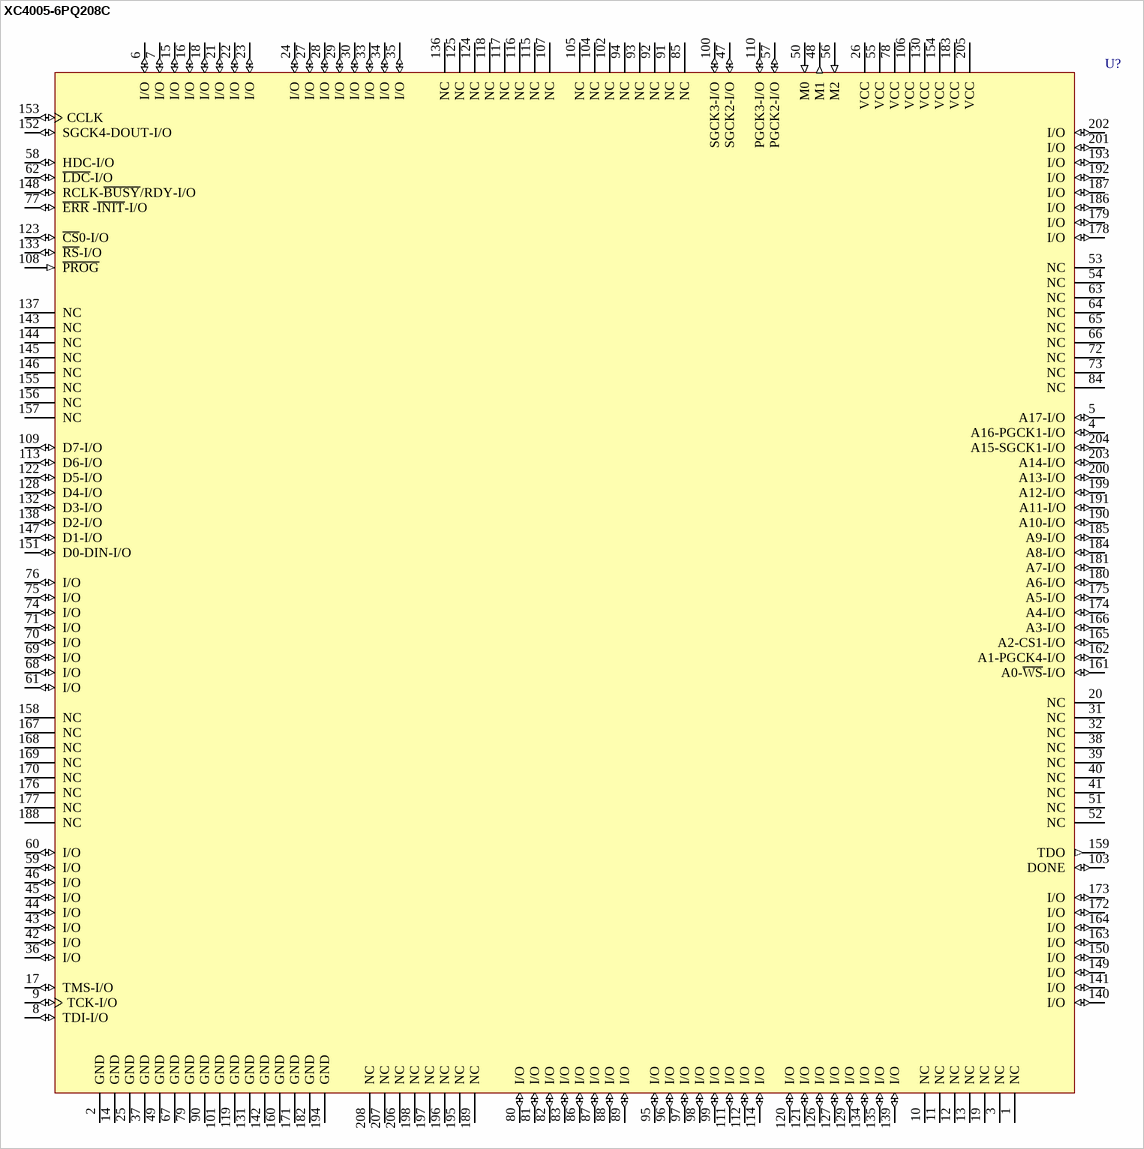
[diagram p37: symbol XC4005-6PQ208C]

## XC4005-6PQ208C
designator U?
Logic Cell Array, with 112 I/O Pins, 208-Pin PQFP, Commercial Grade; ComponentAvailability: Not for New Design; Published: 8-Jun-2000; LatestRevisionDate: 13-Apr-2006; LatestRevisionNote: IPC-7351 Footprint Added.; DatasheetVersion: 1994; PackageVersion: ver1.2, Jun-2004; PackageReference: PQ208; Publisher: Altium Limited; PackageDescription: 208-Pin Plastic Quad Flat Pack (PQ208); Code_JEDEC: MS-029-FA-1; ComponentLink1Description: Manufacturer Link; ComponentLink1URL: http://www.xilinx.com/; ComponentLink2Description: Datasheet; ComponentLink2URL: http://direct.xilinx.com/bvdocs/publications/4000.pdf
footprint PQ208_N (Shrink QFP, 208-Leads, Body 28x28mm, Pitch 0.5mm, IPC Medium Density)
footprint PQ208_L (Shrink QFP, 208-Leads, Body 28x28mm, Pitch 0.5mm, IPC High Density)
footprint PQ208_M (Shrink QFP, 208-Leads, Body 28x28mm, Pitch 0.5mm, IPC Low Density)
3D model XC4005-PQ208 (208-Pin Plastic Quad Flat Pack (PQ208))
pins: 1 NC, 2 GND (power), 3 NC, 4 A16-PGCK1-I/O (io), 5 A17-I/O (io), 6 I/O (io), 7 I/O (io), 8 TDI-I/O (io), 9 TCK-I/O (io), 10 NC, 11 NC, 12 NC, 13 NC, 14 GND (power), 15 I/O (io), 16 I/O (io), 17 TMS-I/O (io), 18 I/O (io), 19 NC, 20 NC, 21 I/O (io), 22 I/O (io), 23 I/O (io), 24 I/O (io), 25 GND (power), 26 VCC (power), 27 I/O (io), 28 I/O (io), 29 I/O (io), 30 I/O (io), 31 NC, 32 NC, 33 I/O (io), 34 I/O (io), 35 I/O (io), 36 I/O (io), 37 GND (power), 38 NC, 39 NC, 40 NC, 41 NC, 42 I/O (io), 43 I/O (io), 44 I/O (io), 45 I/O (io), 46 I/O (io), 47 SGCK2-I/O (io), 48 M1 (out), 49 GND (power), 50 M0 (in), 51 NC, 52 NC, 53 NC, 54 NC, 55 VCC (power), 56 M2 (in), 57 PGCK2-I/O (io), 58 HDC-I/O (io), 59 I/O (io), 60 I/O (io), 61 I/O (io), 62 ~{LDC}-I/O (io), 63 NC, 64 NC, 65 NC, 66 NC, 67 GND (power), 68 I/O (io), 69 I/O (io), 70 I/O (io), 71 I/O (io), 72 NC, 73 NC, 74 I/O (io), 75 I/O (io), 76 I/O (io), 77 ~{ERR} -~{INIT}-I/O (io), 78 VCC (power), 79 GND (power), 80 I/O (io), 81 I/O (io), 82 I/O (io), 83 I/O (io), 84 NC, 85 NC, 86 I/O (io), 87 I/O (io), 88 I/O (io), 89 I/O (io), 90 GND (power), 91 NC, 92 NC, 93 NC, 94 NC, 95 I/O (io), 96 I/O (io), 97 I/O (io), 98 I/O (io), 99 I/O (io), 100 SGCK3-I/O (io), 101 GND (power), 102 NC, 103 DONE (io), 104 NC, 105 NC, 106 VCC (power), 107 NC, 108 ~{PROG} (in), 109 D7-I/O (io), 110 PGCK3-I/O (io), 111 I/O (io), 112 I/O (io), 113 D6-I/O (io), 114 I/O (io), 115 NC, 116 NC, 117 NC, 118 NC, 119 GND (power), 120 I/O (io), 121 I/O (io), 122 D5-I/O (io), 123 ~{CS}0-I/O (io), 124 NC, 125 NC, 126 I/O (io), 127 I/O (io), 128 D4-I/O (io), 129 I/O (io), 130 VCC (power), 131 GND (power), 132 D3-I/O (io), 133 ~{RS}-I/O (io), 134 I/O (io), 135 I/O (io), 136 NC, 137 NC, 138 D2-I/O (io), 139 I/O (io), 140 I/O (io), 141 I/O (io), 142 GND (power), 143 NC, 144 NC, 145 NC, 146 NC, 147 D1-I/O (io), 148 RCLK-~{BUSY}/RDY-I/O (io), 149 I/O (io), 150 I/O (io), 151 D0-DIN-I/O (io), 152 SGCK4-DOUT-I/O (io), 153 CCLK (io), 154 VCC (power), 155 NC, 156 NC, 157 NC, 158 NC, 159 TDO (out), 160 GND (power), 161 A0-~{WS}-I/O (io), 162 A1-PGCK4-I/O (io), 163 I/O (io), 164 I/O (io), 165 A2-CS1-I/O (io), 166 A3-I/O (io), 167 NC, 168 NC, 169 NC, 170 NC, 171 GND (power), 172 I/O (io), 173 I/O (io), 174 A4-I/O (io), 175 A5-I/O (io), 176 NC, 177 NC, 178 I/O (io), 179 I/O (io), 180 A6-I/O (io), 181 A7-I/O (io), 182 GND (power), 183 VCC (power), 184 A8-I/O (io), 185 A9-I/O (io), 186 I/O (io), 187 I/O (io), 188 NC, 189 NC, 190 A10-I/O (io), 191 A11-I/O (io), 192 I/O (io), 193 I/O (io), 194 GND (power), 195 NC, 196 NC, 197 NC, 198 NC, 199 A12-I/O (io), 200 A13-I/O (io), 201 I/O (io), 202 I/O (io), 203 A14-I/O (io), 204 A15-SGCK1-I/O (io), 205 VCC (power), 206 NC, 207 NC, 208 NC

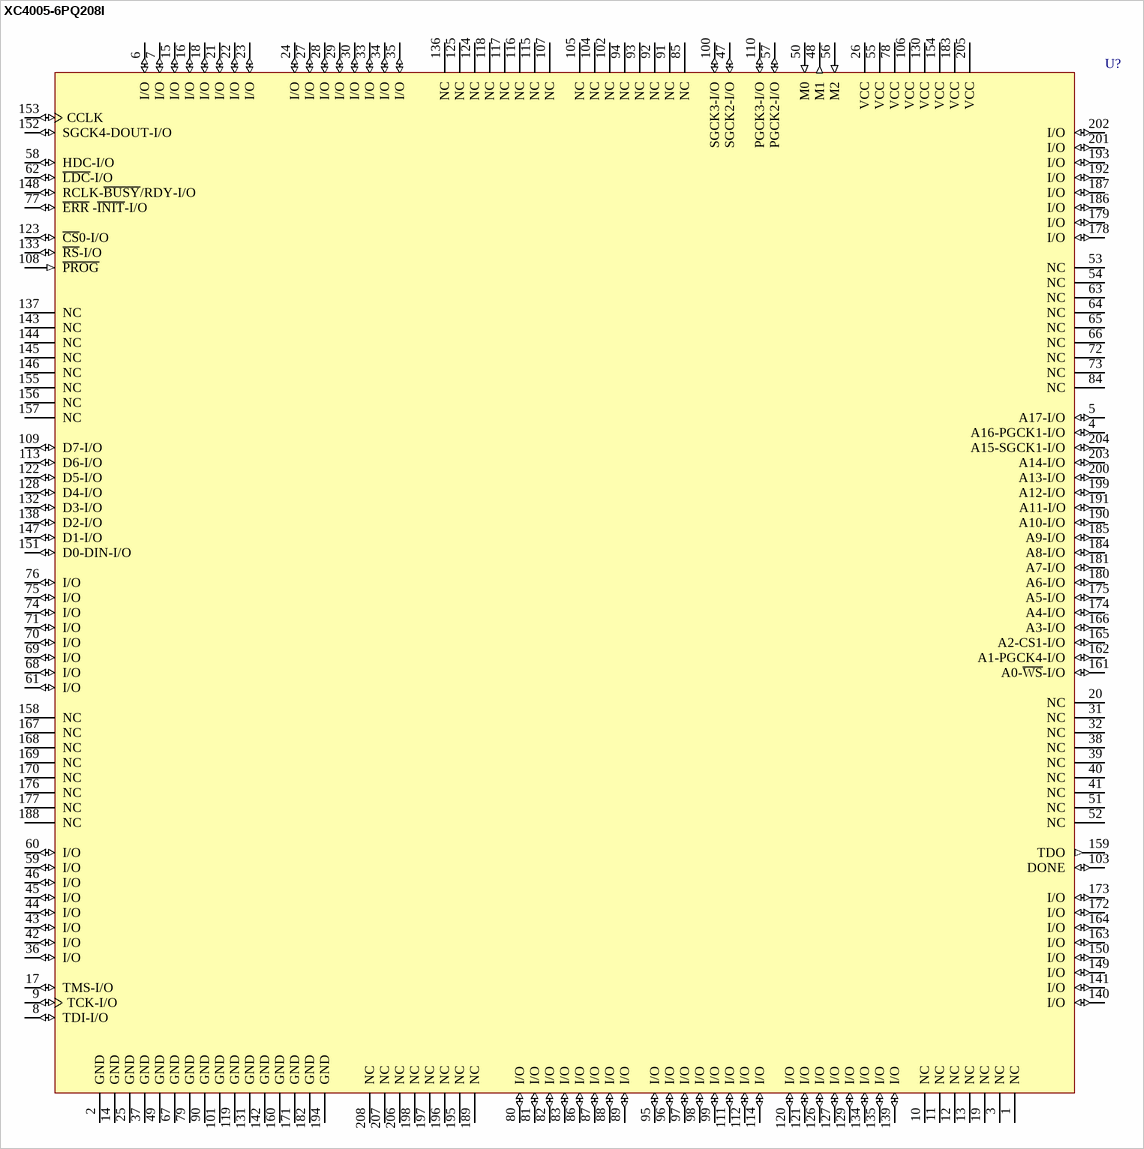
[diagram p38: symbol XC4005-6PQ208I]

## XC4005-6PQ208I
designator U?
Logic Cell Array, with 112 I/O Pins, 208-Pin PQFP, Industrial Grade; ComponentAvailability: Not for New Design; Published: 8-Jun-2000; LatestRevisionDate: 13-Apr-2006; LatestRevisionNote: IPC-7351 Footprint Added.; DatasheetVersion: 1994; PackageVersion: ver1.2, Jun-2004; PackageReference: PQ208; Publisher: Altium Limited; PackageDescription: 208-Pin Plastic Quad Flat Pack (PQ208); Code_JEDEC: MS-029-FA-1; ComponentLink1Description: Manufacturer Link; ComponentLink1URL: http://www.xilinx.com/; ComponentLink2Description: Datasheet; ComponentLink2URL: http://direct.xilinx.com/bvdocs/publications/4000.pdf
footprint PQ208_N (Shrink QFP, 208-Leads, Body 28x28mm, Pitch 0.5mm, IPC Medium Density)
footprint PQ208_L (Shrink QFP, 208-Leads, Body 28x28mm, Pitch 0.5mm, IPC High Density)
footprint PQ208_M (Shrink QFP, 208-Leads, Body 28x28mm, Pitch 0.5mm, IPC Low Density)
3D model XC4005-PQ208 (208-Pin Plastic Quad Flat Pack (PQ208))
pins: 1 NC, 2 GND (power), 3 NC, 4 A16-PGCK1-I/O (io), 5 A17-I/O (io), 6 I/O (io), 7 I/O (io), 8 TDI-I/O (io), 9 TCK-I/O (io), 10 NC, 11 NC, 12 NC, 13 NC, 14 GND (power), 15 I/O (io), 16 I/O (io), 17 TMS-I/O (io), 18 I/O (io), 19 NC, 20 NC, 21 I/O (io), 22 I/O (io), 23 I/O (io), 24 I/O (io), 25 GND (power), 26 VCC (power), 27 I/O (io), 28 I/O (io), 29 I/O (io), 30 I/O (io), 31 NC, 32 NC, 33 I/O (io), 34 I/O (io), 35 I/O (io), 36 I/O (io), 37 GND (power), 38 NC, 39 NC, 40 NC, 41 NC, 42 I/O (io), 43 I/O (io), 44 I/O (io), 45 I/O (io), 46 I/O (io), 47 SGCK2-I/O (io), 48 M1 (out), 49 GND (power), 50 M0 (in), 51 NC, 52 NC, 53 NC, 54 NC, 55 VCC (power), 56 M2 (in), 57 PGCK2-I/O (io), 58 HDC-I/O (io), 59 I/O (io), 60 I/O (io), 61 I/O (io), 62 ~{LDC}-I/O (io), 63 NC, 64 NC, 65 NC, 66 NC, 67 GND (power), 68 I/O (io), 69 I/O (io), 70 I/O (io), 71 I/O (io), 72 NC, 73 NC, 74 I/O (io), 75 I/O (io), 76 I/O (io), 77 ~{ERR} -~{INIT}-I/O (io), 78 VCC (power), 79 GND (power), 80 I/O (io), 81 I/O (io), 82 I/O (io), 83 I/O (io), 84 NC, 85 NC, 86 I/O (io), 87 I/O (io), 88 I/O (io), 89 I/O (io), 90 GND (power), 91 NC, 92 NC, 93 NC, 94 NC, 95 I/O (io), 96 I/O (io), 97 I/O (io), 98 I/O (io), 99 I/O (io), 100 SGCK3-I/O (io), 101 GND (power), 102 NC, 103 DONE (io), 104 NC, 105 NC, 106 VCC (power), 107 NC, 108 ~{PROG} (in), 109 D7-I/O (io), 110 PGCK3-I/O (io), 111 I/O (io), 112 I/O (io), 113 D6-I/O (io), 114 I/O (io), 115 NC, 116 NC, 117 NC, 118 NC, 119 GND (power), 120 I/O (io), 121 I/O (io), 122 D5-I/O (io), 123 ~{CS}0-I/O (io), 124 NC, 125 NC, 126 I/O (io), 127 I/O (io), 128 D4-I/O (io), 129 I/O (io), 130 VCC (power), 131 GND (power), 132 D3-I/O (io), 133 ~{RS}-I/O (io), 134 I/O (io), 135 I/O (io), 136 NC, 137 NC, 138 D2-I/O (io), 139 I/O (io), 140 I/O (io), 141 I/O (io), 142 GND (power), 143 NC, 144 NC, 145 NC, 146 NC, 147 D1-I/O (io), 148 RCLK-~{BUSY}/RDY-I/O (io), 149 I/O (io), 150 I/O (io), 151 D0-DIN-I/O (io), 152 SGCK4-DOUT-I/O (io), 153 CCLK (io), 154 VCC (power), 155 NC, 156 NC, 157 NC, 158 NC, 159 TDO (out), 160 GND (power), 161 A0-~{WS}-I/O (io), 162 A1-PGCK4-I/O (io), 163 I/O (io), 164 I/O (io), 165 A2-CS1-I/O (io), 166 A3-I/O (io), 167 NC, 168 NC, 169 NC, 170 NC, 171 GND (power), 172 I/O (io), 173 I/O (io), 174 A4-I/O (io), 175 A5-I/O (io), 176 NC, 177 NC, 178 I/O (io), 179 I/O (io), 180 A6-I/O (io), 181 A7-I/O (io), 182 GND (power), 183 VCC (power), 184 A8-I/O (io), 185 A9-I/O (io), 186 I/O (io), 187 I/O (io), 188 NC, 189 NC, 190 A10-I/O (io), 191 A11-I/O (io), 192 I/O (io), 193 I/O (io), 194 GND (power), 195 NC, 196 NC, 197 NC, 198 NC, 199 A12-I/O (io), 200 A13-I/O (io), 201 I/O (io), 202 I/O (io), 203 A14-I/O (io), 204 A15-SGCK1-I/O (io), 205 VCC (power), 206 NC, 207 NC, 208 NC

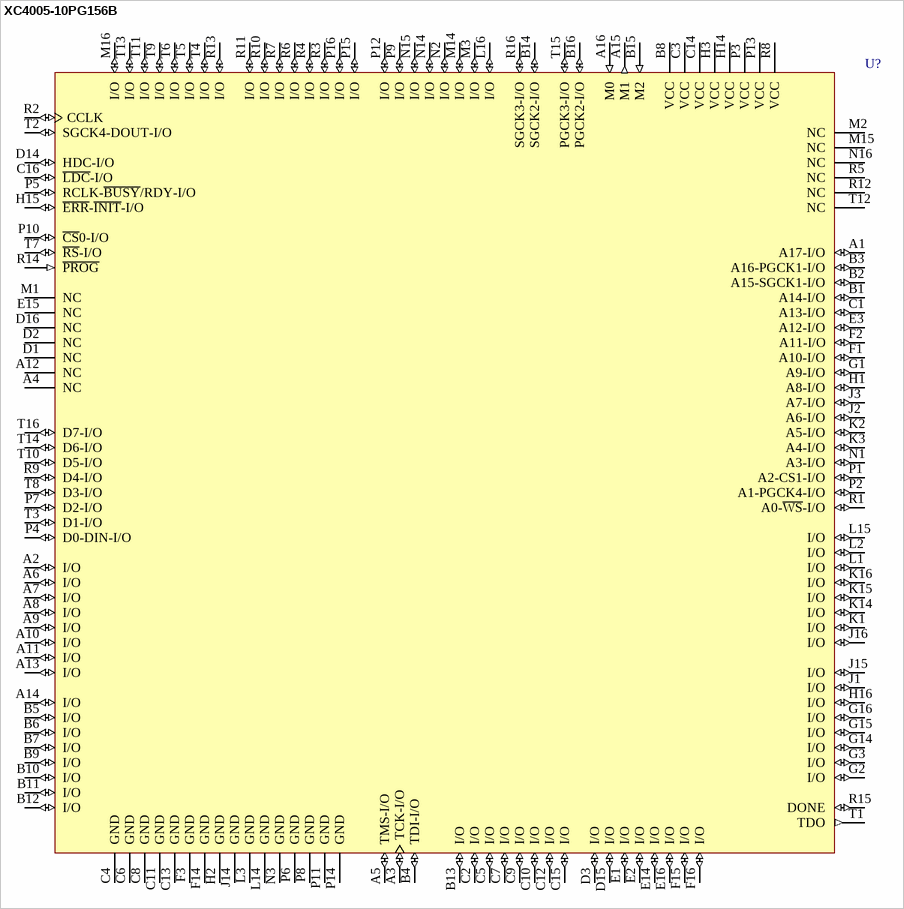
[diagram p39: symbol XC4005-10PG156B]

## XC4005-10PG156B
designator U?
Logic Cell Array, with 112 I/O Pins, 156-Pin PGA, Military Class B Grade; ComponentAvailability: Not for New Design; Published: 8-Jun-2000; LatestRevisionDate: 04-Mar-2005; LatestRevisionNote: Stylized 3D Model Added.; DatasheetVersion: 1994; PackageVersion: ver1.1, Apr-2001; PackageReference: PG156; Publisher: Altium Limited; PackageDescription: 156-Pin Ceramic Pin Grid Array (PG156); Code_JEDEC: MO-067-AH; ComponentLink1Description: Manufacturer Link; ComponentLink1URL: http://www.xilinx.com/; ComponentLink2Description: Datasheet; ComponentLink2URL: http://direct.xilinx.com/bvdocs/publications/4000.pdf
footprint PG156 (PGA, 156-Leads, Body 42x42mm, Pitch 2.54mm)
3D model XC4005-PG156 (156-Pin Ceramic Pin Grid Array (PG156))
pins: A1 A17-I/O (io), A2 I/O (io), A3 TCK-I/O (io), A4 NC, A5 TMS-I/O (io), A6 I/O (io), A7 I/O (io), A8 I/O (io), A9 I/O (io), A10 I/O (io), A11 I/O (io), A12 NC, A13 I/O (io), A14 I/O (io), A15 M1 (out), A16 M0 (in), B1 A14-I/O (io), B2 A15-SGCK1-I/O (io), B3 A16-PGCK1-I/O (io), B4 TDI-I/O (io), B5 I/O (io), B6 I/O (io), B7 I/O (io), B8 VCC (power), B9 I/O (io), B10 I/O (io), B11 I/O (io), B12 I/O (io), B13 I/O (io), B14 SGCK2-I/O (io), B15 M2 (in), B16 PGCK2-I/O (io), C1 A13-I/O (io), C2 I/O (io), C3 VCC (power), C4 GND (power), C5 I/O (io), C6 GND (power), C7 I/O (io), C8 GND (power), C9 I/O (io), C10 I/O (io), C11 GND (power), C12 I/O (io), C13 GND (power), C14 VCC (power), C15 I/O (io), C16 ~{LDC}-I/O (io), D1 NC, D2 NC, D3 I/O (io), D14 HDC-I/O (io), D15 I/O (io), D16 NC, E1 I/O (io), E2 I/O (io), E3 A12-I/O (io), E14 I/O (io), E15 NC, E16 I/O (io), F1 A10-I/O (io), F2 A11-I/O (io), F3 GND (power), F14 GND (power), F15 I/O (io), F16 I/O (io), G1 A9-I/O (io), G2 I/O (io), G3 I/O (io), G14 I/O (io), G15 I/O (io), G16 I/O (io), H1 A8-I/O (io), H2 GND (power), H3 VCC (power), H14 VCC (power), H15 ~{ERR}-~{INIT}-I/O (io), H16 I/O (io), J1 I/O (io), J2 A6-I/O (io), J3 A7-I/O (io), J14 GND (power), J15 I/O (io), J16 I/O (io), K1 I/O (io), K2 A5-I/O (io), K3 A4-I/O (io), K14 I/O (io), K15 I/O (io), K16 I/O (io), L1 I/O (io), L2 I/O (io), L3 GND (power), L14 GND (power), L15 I/O (io), L16 I/O (io), M1 NC, M2 NC, M3 I/O (io), M14 I/O (io), M15 NC, M16 I/O (io), N1 A3-I/O (io), N2 I/O (io), N3 GND (power), N14 I/O (io), N15 I/O (io), N16 NC, P1 A2-CS1-I/O (io), P2 A1-PGCK4-I/O (io), P3 VCC (power), P4 D0-DIN-I/O (io), P5 RCLK-~{BUSY}/RDY-I/O (io), P6 GND (power), P7 D2-I/O (io), P8 GND (power), P9 I/O (io), P10 ~{CS}0-I/O (io), P11 GND (power), P12 I/O (io), P13 VCC (power), P14 GND (power), P15 I/O (io), P16 I/O (io), R1 A0-~{WS}-I/O (io), R2 CCLK (io), R3 I/O (io), R4 I/O (io), R5 NC, R6 I/O (io), R7 I/O (io), R8 VCC (power), R9 D4-I/O (io), R10 I/O (io), R11 I/O (io), R12 NC, R13 I/O (io), R14 ~{PROG} (in), R15 DONE (io), R16 SGCK3-I/O (io), T1 TDO (out), T2 SGCK4-DOUT-I/O (io), T3 D1-I/O (io), T4 I/O (io), T5 I/O (io), T6 I/O (io), T7 ~{RS}-I/O (io), T8 D3-I/O (io), T9 I/O (io), T10 D5-I/O (io), T11 I/O (io), T12 NC, T13 I/O (io), T14 D6-I/O (io), T15 PGCK3-I/O (io), T16 D7-I/O (io)

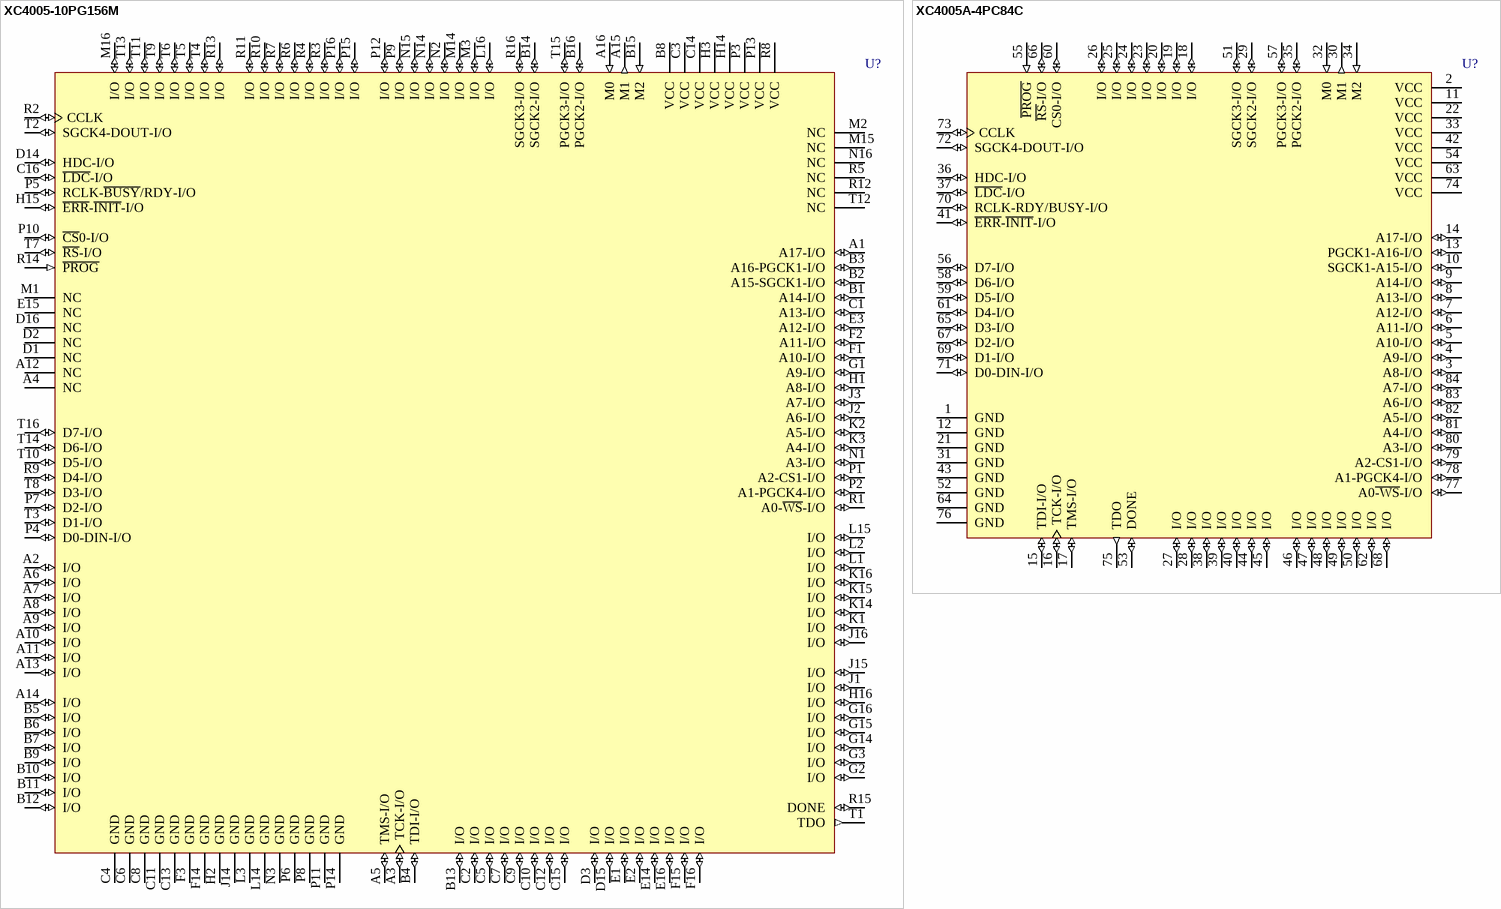
[diagram p40: symbols XC4005-10PG156M to XC4005A-4PC84C]

## XC4005-10PG156M
designator U?
Logic Cell Array, with 112 I/O Pins, 156-Pin PGA, Military Grade; ComponentAvailability: Not for New Design; Published: 8-Jun-2000; LatestRevisionDate: 04-Mar-2005; LatestRevisionNote: Stylized 3D Model Added.; DatasheetVersion: 1994; PackageVersion: ver1.1, Apr-2001; PackageReference: PG156; Publisher: Altium Limited; PackageDescription: 156-Pin Ceramic Pin Grid Array (PG156); Code_JEDEC: MO-067-AH; ComponentLink1Description: Manufacturer Link; ComponentLink1URL: http://www.xilinx.com/; ComponentLink2Description: Datasheet; ComponentLink2URL: http://direct.xilinx.com/bvdocs/publications/4000.pdf
footprint PG156 (PGA, 156-Leads, Body 42x42mm, Pitch 2.54mm)
3D model XC4005-PG156 (156-Pin Ceramic Pin Grid Array (PG156))
pins: A1 A17-I/O (io), A2 I/O (io), A3 TCK-I/O (io), A4 NC, A5 TMS-I/O (io), A6 I/O (io), A7 I/O (io), A8 I/O (io), A9 I/O (io), A10 I/O (io), A11 I/O (io), A12 NC, A13 I/O (io), A14 I/O (io), A15 M1 (out), A16 M0 (in), B1 A14-I/O (io), B2 A15-SGCK1-I/O (io), B3 A16-PGCK1-I/O (io), B4 TDI-I/O (io), B5 I/O (io), B6 I/O (io), B7 I/O (io), B8 VCC (power), B9 I/O (io), B10 I/O (io), B11 I/O (io), B12 I/O (io), B13 I/O (io), B14 SGCK2-I/O (io), B15 M2 (in), B16 PGCK2-I/O (io), C1 A13-I/O (io), C2 I/O (io), C3 VCC (power), C4 GND (power), C5 I/O (io), C6 GND (power), C7 I/O (io), C8 GND (power), C9 I/O (io), C10 I/O (io), C11 GND (power), C12 I/O (io), C13 GND (power), C14 VCC (power), C15 I/O (io), C16 ~{LDC}-I/O (io), D1 NC, D2 NC, D3 I/O (io), D14 HDC-I/O (io), D15 I/O (io), D16 NC, E1 I/O (io), E2 I/O (io), E3 A12-I/O (io), E14 I/O (io), E15 NC, E16 I/O (io), F1 A10-I/O (io), F2 A11-I/O (io), F3 GND (power), F14 GND (power), F15 I/O (io), F16 I/O (io), G1 A9-I/O (io), G2 I/O (io), G3 I/O (io), G14 I/O (io), G15 I/O (io), G16 I/O (io), H1 A8-I/O (io), H2 GND (power), H3 VCC (power), H14 VCC (power), H15 ~{ERR}-~{INIT}-I/O (io), H16 I/O (io), J1 I/O (io), J2 A6-I/O (io), J3 A7-I/O (io), J14 GND (power), J15 I/O (io), J16 I/O (io), K1 I/O (io), K2 A5-I/O (io), K3 A4-I/O (io), K14 I/O (io), K15 I/O (io), K16 I/O (io), L1 I/O (io), L2 I/O (io), L3 GND (power), L14 GND (power), L15 I/O (io), L16 I/O (io), M1 NC, M2 NC, M3 I/O (io), M14 I/O (io), M15 NC, M16 I/O (io), N1 A3-I/O (io), N2 I/O (io), N3 GND (power), N14 I/O (io), N15 I/O (io), N16 NC, P1 A2-CS1-I/O (io), P2 A1-PGCK4-I/O (io), P3 VCC (power), P4 D0-DIN-I/O (io), P5 RCLK-~{BUSY}/RDY-I/O (io), P6 GND (power), P7 D2-I/O (io), P8 GND (power), P9 I/O (io), P10 ~{CS}0-I/O (io), P11 GND (power), P12 I/O (io), P13 VCC (power), P14 GND (power), P15 I/O (io), P16 I/O (io), R1 A0-~{WS}-I/O (io), R2 CCLK (io), R3 I/O (io), R4 I/O (io), R5 NC, R6 I/O (io), R7 I/O (io), R8 VCC (power), R9 D4-I/O (io), R10 I/O (io), R11 I/O (io), R12 NC, R13 I/O (io), R14 ~{PROG} (in), R15 DONE (io), R16 SGCK3-I/O (io), T1 TDO (out), T2 SGCK4-DOUT-I/O (io), T3 D1-I/O (io), T4 I/O (io), T5 I/O (io), T6 I/O (io), T7 ~{RS}-I/O (io), T8 D3-I/O (io), T9 I/O (io), T10 D5-I/O (io), T11 I/O (io), T12 NC, T13 I/O (io), T14 D6-I/O (io), T15 PGCK3-I/O (io), T16 D7-I/O (io)

## XC4005A-4PC84C
designator U?
Logic Cell Array, with 61 I/O Pins, 84-Pin PLCC, Commercial Grade; ComponentAvailability: Not for New Design; Published: 8-Jun-2000; LatestRevisionDate: 13-Apr-2006; LatestRevisionNote: IPC-7351 Footprint Added.; DatasheetVersion: 1994; PackageVersion: ver1.2, Jun-2004; PackageReference: PC84; Publisher: Altium Limited; PackageDescription: 84-Pin Plastic Leaded Chip Carrier (PC84); Code_JEDEC: MS-047; Code_IPC: PLCC-84; ComponentLink1Description: Manufacturer Link; ComponentLink1URL: http://www.xilinx.com/; ComponentLink2Description: Datasheet; ComponentLink2URL: http://direct.xilinx.com/bvdocs/publications/4000.pdf
footprint PC84_N (Leaded Chip Carrier, 84-Leads, Body 29.3x29.3mm, Pitch 1.27mm, IPC Medium Density)
footprint PC84_L (Leaded Chip Carrier, 84-Leads, Body 29.3x29.3mm, Pitch 1.27mm, IPC High Density)
footprint PC84_M (Leaded Chip Carrier, 84-Leads, Body 29.3x29.3mm, Pitch 1.27mm, IPC Low Density)
3D model XC4005A-PC84 (84-Pin Plastic Leaded Chip Carrier (PC84))
pins: 1 GND (power), 2 VCC (power), 3 A8-I/O (io), 4 A9-I/O (io), 5 A10-I/O (io), 6 A11-I/O (io), 7 A12-I/O (io), 8 A13-I/O (io), 9 A14-I/O (io), 10 SGCK1-A15-I/O (io), 11 VCC (power), 12 GND (power), 13 PGCK1-A16-I/O (io), 14 A17-I/O (io), 15 TDI-I/O (io), 16 TCK-I/O (io), 17 TMS-I/O (io), 18 I/O (io), 19 I/O (io), 20 I/O (io), 21 GND (power), 22 VCC (power), 23 I/O (io), 24 I/O (io), 25 I/O (io), 26 I/O (io), 27 I/O (io), 28 I/O (io), 29 SGCK2-I/O (io), 30 M1 (out), 31 GND (power), 32 M0 (in), 33 VCC (power), 34 M2 (in), 35 PGCK2-I/O (io), 36 HDC-I/O (io), 37 ~{LDC}-I/O (io), 38 I/O (io), 39 I/O (io), 40 I/O (io), 41 ~{ERR}-~{INIT}-I/O (io), 42 VCC (power), 43 GND (power), 44 I/O (io), 45 I/O (io), 46 I/O (io), 47 I/O (io), 48 I/O (io), 49 I/O (io), 50 I/O (io), 51 SGCK3-I/O (io), 52 GND (power), 53 DONE (io), 54 VCC (power), 55 ~{PROG} (in), 56 D7-I/O (io), 57 PGCK3-I/O (io), 58 D6-I/O (io), 59 D5-I/O (io), 60 CS0-I/O (io), 61 D4-I/O (io), 62 I/O (io), 63 VCC (power), 64 GND (power), 65 D3-I/O (io), 66 ~{RS}-I/O (io), 67 D2-I/O (io), 68 I/O (io), 69 D1-I/O (io), 70 RCLK-RDY/BUSY-I/O (io), 71 D0-DIN-I/O (io), 72 SGCK4-DOUT-I/O (io), 73 CCLK (io), 74 VCC (power), 75 TDO (out), 76 GND (power), 77 A0~{-WS}-I/O (io), 78 A1-PGCK4-I/O (io), 79 A2-CS1-I/O (io), 80 A3-I/O (io), 81 A4-I/O (io), 82 A5-I/O (io), 83 A6-I/O (io), 84 A7-I/O (io)

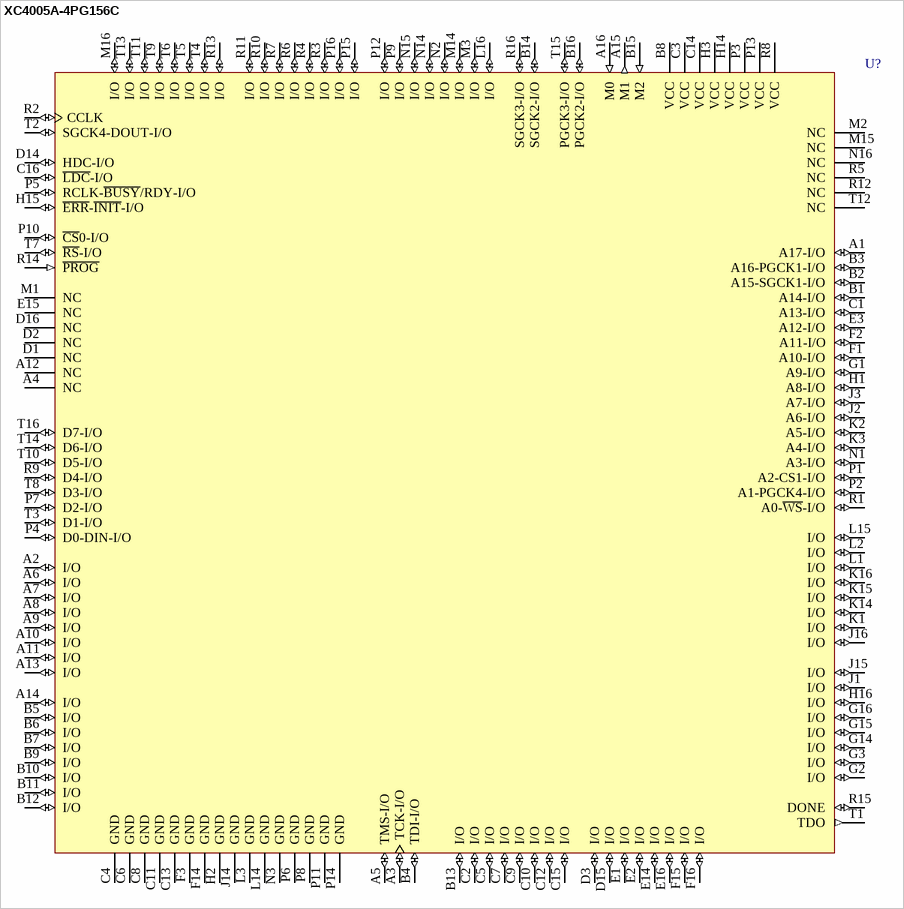
[diagram p41: symbol XC4005A-4PG156C]